# Altium schematic symbol library RF Module.SchLib: 92 symbols (part 1 of 2)
Pins are listed as number, name and electrical type; pins without a type are passive.

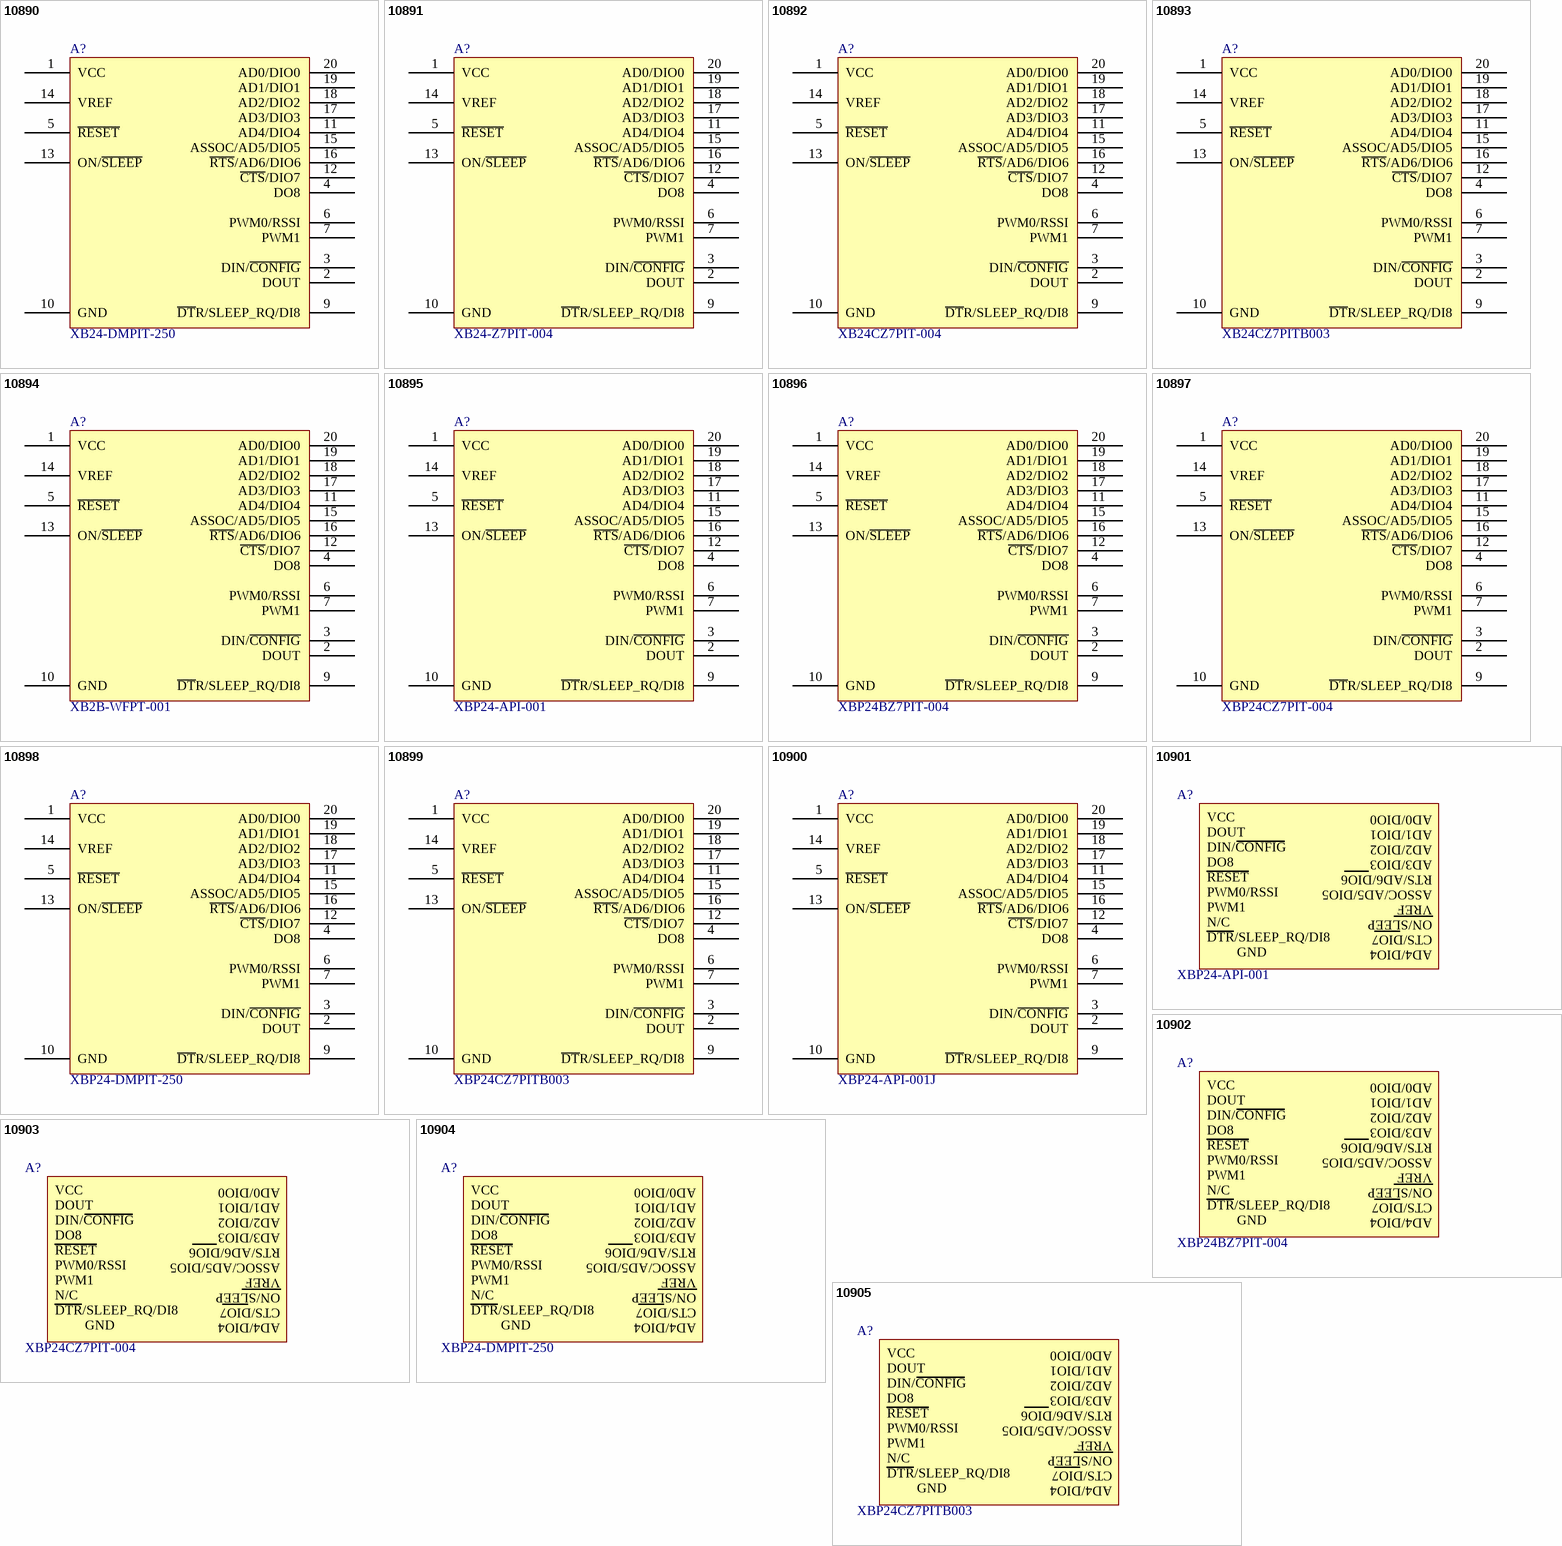
[diagram p0: symbols 10890 to 10905]

## 10890
designator A?, comment XB24-DMPIT-250
XBEE DIGIMESH 2.4GHZ 1MW PCB ANT; Manufacturer: Digi International; Protocol: Zigbee; DataRate: 250kbps; Power - Output: 0dBm; Sensitivity: -92dBm; Serial Interfaces: SPI, UART; Antenna Type: Integrated, Trace; Voltage - Supply: 2.8 V ~ 3.4 V; Current - Receiving: 50mA; Current - Transmitting: 45mA; PartId: 10890; Part Number: XB24-DMPIT-250; Supplier 1: Digi-Key; Supplier Part Number 1: 602-1338-ND; ComponentLink1Description: Datasheet; ComponentLink1URL: http://www.digi.com/pdf/ds_xbeedigimesh24.pdf; ComponentLink2Description: Digi-Key Listing; ComponentLink2URL: https://www.digikey.com/product-detail/en/digi-international/XB24-DMPIT-250/602-1338-ND/3482610; Price: 19; Device Package: Module; Operating Temperature: -40C ~ 85C; RF Family/Standard: 802.15.4; Frequency: 2.4GHz; Mounting Type: Through Hole
footprint DIGI XBEE PCB ANT
pins: 1 VCC, 2 DOUT, 3 DIN/~{CONFIG}, 4 DO8, 5 ~{RESET}, 6 PWM0/RSSI, 7 PWM1, 9 ~{DT}R/SLEEP_RQ/DI8, 10 GND, 11 AD4/DIO4, 12 ~{CTS}/DIO7, 13 ON/~{SLEEP}, 14 VREF, 15 ASSOC/AD5/DIO5, 16 ~{RTS}/AD6/DIO6, 17 AD3/DIO3, 18 AD2/DIO2, 19 AD1/DIO1, 20 AD0/DIO0

## 10891
designator A?, comment XB24-Z7PIT-004
XBEE PRO 2.4GHZ 2MW PCB ANT; Manufacturer: Digi International; Protocol: Zigbee; DataRate: 250kbps; Power - Output: 1dBm; Sensitivity: -96dBm; Antenna Type: Integrated, Trace; Voltage - Supply: 2.1 V ~ 3.6 V; Current - Receiving: 38mA; Current - Transmitting: 35mA; PartId: 10891; Part Number: XB24-Z7PIT-004; Supplier 1: Digi-Key; Supplier Part Number 1: 602-1275-ND; ComponentLink1Description: Datasheet; ComponentLink1URL: http://media.digikey.com/pdf/Data%20Sheets/Digi%20International%20PDFs/xbeezbmodule_ds.pdf; ComponentLink2Description: Digi-Key Listing; ComponentLink2URL: https://www.digikey.com/product-detail/en/digi-international/XB24-Z7PIT-004/602-1275-ND/3482624; Price: 17; Device Package: Module; Operating Temperature: -40C ~ 85C; RF Family/Standard: 802.15.4; Frequency: 2.4GHz; Mounting Type: Through Hole
footprint DIGI XBEE PCB ANT
pins: 1 VCC, 2 DOUT, 3 DIN/~{CONFIG}, 4 DO8, 5 ~{RESET}, 6 PWM0/RSSI, 7 PWM1, 9 ~{DT}R/SLEEP_RQ/DI8, 10 GND, 11 AD4/DIO4, 12 ~{CTS}/DIO7, 13 ON/~{SLEEP}, 14 VREF, 15 ASSOC/AD5/DIO5, 16 ~{RTS}/AD6/DIO6, 17 AD3/DIO3, 18 AD2/DIO2, 19 AD1/DIO1, 20 AD0/DIO0

## 10892
designator A?, comment XB24CZ7PIT-004
MODULE XBEE W/PCB ANT; Manufacturer: Digi International; Protocol: Zigbee; Frequency: 2.4GHz; DataRate: 250kbps; Power - Output: 8dBm; Sensitivity: -102dBm; Serial Interfaces: SPI, UART; Antenna Type: Integrated, Trace; Voltage - Supply: 2.1 V ~ 3.6 V; Current - Receiving: 31mA; Current - Transmitting: 45mA; PartId: 10892; Part Number: XB24CZ7PIT-004; Supplier 1: Digi-Key; Supplier Part Number 1: 602-1557-ND; ComponentLink1Description: Datasheet; ComponentLink1URL: http://www.digi.com/pdf/ds_xbee_zigbee.pdf; ComponentLink2Description: Digi-Key Listing; ComponentLink2URL: https://www.digikey.com/product-detail/en/digi-international/XB24CZ7PIT-004/602-1557-ND/5322371; Price: 17.5; Device Package: Module; Operating Temperature: -40C ~ 85C; RF Family/Standard: 802.15.4; Mounting Type: Through Hole
footprint DIGI XBEE PCB ANT
pins: 1 VCC, 2 DOUT, 3 DIN/~{CONFIG}, 4 DO8, 5 ~{RESET}, 6 PWM0/RSSI, 7 PWM1, 9 ~{DT}R/SLEEP_RQ/DI8, 10 GND, 11 AD4/DIO4, 12 ~{CTS}/DIO7, 13 ON/~{SLEEP}, 14 VREF, 15 ASSOC/AD5/DIO5, 16 ~{RTS}/AD6/DIO6, 17 AD3/DIO3, 18 AD2/DIO2, 19 AD1/DIO1, 20 AD0/DIO0

## 10893
designator A?, comment XB24CZ7PITB003
MODULE XBEE W/PCB ANT; Manufacturer: Digi International; Protocol: Zigbee; Frequency: 2.4GHz; DataRate: 250kbps; Power - Output: 8dBm; Sensitivity: -102dBm; Serial Interfaces: SPI, UART; Antenna Type: Integrated, Trace; Memory Size: 32kB Flash, 2kB RAM; Voltage - Supply: 2.1 V ~ 3.6 V; Current - Receiving: 45mA; Current - Transmitting: 59mA; PartId: 10893; Part Number: XB24CZ7PITB003; Supplier 1: Digi-Key; Supplier Part Number 1: 602-1855-ND; ComponentLink1Description: Datasheet; ComponentLink1URL: http://www.digi.com/pdf/ds_xbee_zigbee.pdf; ComponentLink2Description: Digi-Key Listing; ComponentLink2URL: https://www.digikey.com/product-detail/en/digi-international/XB24CZ7PITB003/602-1855-ND/5322877; Price: 20.25; Device Package: Module; Operating Temperature: -40C ~ 85C; RF Family/Standard: 802.15.4; Mounting Type: Through Hole
footprint DIGI XBEE PCB ANT
pins: 1 VCC, 2 DOUT, 3 DIN/~{CONFIG}, 4 DO8, 5 ~{RESET}, 6 PWM0/RSSI, 7 PWM1, 9 ~{DT}R/SLEEP_RQ/DI8, 10 GND, 11 AD4/DIO4, 12 ~{CTS}/DIO7, 13 ON/~{SLEEP}, 14 VREF, 15 ASSOC/AD5/DIO5, 16 ~{RTS}/AD6/DIO6, 17 AD3/DIO3, 18 AD2/DIO2, 19 AD1/DIO1, 20 AD0/DIO0

## 10894
designator A?, comment XB2B-WFPT-001
XBEE WI-FI PCB ANTENNA THRU-HOLE; Manufacturer: Digi International; RF Family/Standard: WiFi; Protocol: 802.11b/g/n; Frequency: 2.4GHz; DataRate: 72Mbps; Power - Output: 16dBm; Sensitivity: -93dBm; Serial Interfaces: SPI, UART; Antenna Type: Integrated, Trace; Voltage - Supply: 3.14 V ~ 3.46 V; Current - Receiving: 100mA; Current - Transmitting: 309mA; PartId: 10894; Part Number: XB2B-WFPT-001; Supplier 1: Digi-Key; Supplier Part Number 1: 602-1370-ND; ComponentLink1Description: Datasheet; ComponentLink1URL: http://www.digi.com/pdf/ds_xbeewifis6b.pdf; ComponentLink2Description: Digi-Key Listing; ComponentLink2URL: https://www.digikey.com/product-detail/en/digi-international/XB2B-WFPT-001/602-1370-ND/3973699; Price: 36.19; Device Package: Module; Operating Temperature: -30C ~ 85C; Mounting Type: Through Hole
footprint DIGI XBEE PCB ANT
pins: 1 VCC, 2 DOUT, 3 DIN/~{CONFIG}, 4 DO8, 5 ~{RESET}, 6 PWM0/RSSI, 7 PWM1, 9 ~{DT}R/SLEEP_RQ/DI8, 10 GND, 11 AD4/DIO4, 12 ~{CTS}/DIO7, 13 ON/~{SLEEP}, 14 VREF, 15 ASSOC/AD5/DIO5, 16 ~{RTS}/AD6/DIO6, 17 AD3/DIO3, 18 AD2/DIO2, 19 AD1/DIO1, 20 AD0/DIO0

## 10895
designator A?, comment XBP24-API-001
XBEE PRO 802.15.4 63MW PCB; Manufacturer: Digi International; Protocol: Zigbee; Frequency: 2.4GHz; DataRate: 250kbps; Power - Output: 18dBm; Sensitivity: -100dBm; Serial Interfaces: UART; Antenna Type: Integrated, Trace; Voltage - Supply: 2.8 V ~ 3.4 V; Current - Receiving: 55mA; Current - Transmitting: 250mA; PartId: 10895; Part Number: XBP24-API-001; Supplier 1: Digi-Key; Supplier Part Number 1: 602-1280-ND; ComponentLink1Description: Datasheet; ComponentLink1URL: http://www.digi.com/pdf/ds_xbeemultipointmodules.pdf; ComponentLink2Description: Digi-Key Listing; ComponentLink2URL: https://www.digikey.com/product-detail/en/digi-international/XBP24-API-001/602-1280-ND/3482668; Price: 32; Device Package: Module; Operating Temperature: -40C ~ 85C; RF Family/Standard: 802.15.4; Mounting Type: Through Hole
footprint DIGI XBEE PRO PCB ANT
pins: 1 VCC, 2 DOUT, 3 DIN/~{CONFIG}, 4 DO8, 5 ~{RESET}, 6 PWM0/RSSI, 7 PWM1, 9 ~{DT}R/SLEEP_RQ/DI8, 10 GND, 11 AD4/DIO4, 12 ~{CTS}/DIO7, 13 ON/~{SLEEP}, 14 VREF, 15 ASSOC/AD5/DIO5, 16 ~{RTS}/AD6/DIO6, 17 AD3/DIO3, 18 AD2/DIO2, 19 AD1/DIO1, 20 AD0/DIO0

## 10896
designator A?, comment XBP24BZ7PIT-004
MODULE ZIGBEE-PRO W/PCB ANT; Manufacturer: Digi International; Protocol: Zigbee; Frequency: 2.4GHz; DataRate: 250kbps; Power - Output: 18dBm; Sensitivity: -102dBm; Serial Interfaces: IC, PWM, SPI, UART; Antenna Type: Integrated, Trace; Voltage - Supply: 2.7 V ~ 3.6 V; Current - Receiving: 47mA; Current - Transmitting: 205mA; PartId: 10896; Part Number: XBP24BZ7PIT-004; Supplier 1: Digi-Key; Supplier Part Number 1: 602-1179-ND; ComponentLink1Description: Datasheet; ComponentLink1URL: http://media.digikey.com/pdf/Data%20Sheets/Digi%20International%20PDFs/xbeezbmodule_ds.pdf; ComponentLink2Description: Digi-Key Listing; ComponentLink2URL: https://www.digikey.com/product-detail/en/digi-international/XBP24BZ7PIT-004/602-1179-ND/2344899; Price: 28; Device Package: Module; Operating Temperature: -40C ~ 85C; RF Family/Standard: 802.15.4; Mounting Type: Through Hole
footprint DIGI XBEE PRO PCB ANT
pins: 1 VCC, 2 DOUT, 3 DIN/~{CONFIG}, 4 DO8, 5 ~{RESET}, 6 PWM0/RSSI, 7 PWM1, 9 ~{DT}R/SLEEP_RQ/DI8, 10 GND, 11 AD4/DIO4, 12 ~{CTS}/DIO7, 13 ON/~{SLEEP}, 14 VREF, 15 ASSOC/AD5/DIO5, 16 ~{RTS}/AD6/DIO6, 17 AD3/DIO3, 18 AD2/DIO2, 19 AD1/DIO1, 20 AD0/DIO0

## 10897
designator A?, comment XBP24CZ7PIT-004
MODULE XBEE W/PCB ANT; Manufacturer: Digi International; Protocol: Zigbee; Frequency: 2.4GHz; DataRate: 250kbps; Power - Output: 18dBm; Sensitivity: -101dBm; Serial Interfaces: SPI, UART; Antenna Type: Integrated, Trace; Voltage - Supply: 2.7 V ~ 3.6 V; Current - Receiving: 31mA; Current - Transmitting: 120mA; PartId: 10897; Part Number: XBP24CZ7PIT-004; Supplier 1: Digi-Key; Supplier Part Number 1: 602-1561-ND; ComponentLink1Description: Datasheet; ComponentLink1URL: http://www.digi.com/pdf/ds_xbee_zigbee.pdf; ComponentLink2Description: Digi-Key Listing; ComponentLink2URL: https://www.digikey.com/product-detail/en/digi-international/XBP24CZ7PIT-004/602-1561-ND/5322375; Price: 28.5; Device Package: Module; Operating Temperature: -40C ~ 85C; RF Family/Standard: 802.15.4; Mounting Type: Through Hole
footprint DIGI XBEE PRO PCB ANT
pins: 1 VCC, 2 DOUT, 3 DIN/~{CONFIG}, 4 DO8, 5 ~{RESET}, 6 PWM0/RSSI, 7 PWM1, 9 ~{DT}R/SLEEP_RQ/DI8, 10 GND, 11 AD4/DIO4, 12 ~{CTS}/DIO7, 13 ON/~{SLEEP}, 14 VREF, 15 ASSOC/AD5/DIO5, 16 ~{RTS}/AD6/DIO6, 17 AD3/DIO3, 18 AD2/DIO2, 19 AD1/DIO1, 20 AD0/DIO0

## 10898
designator A?, comment XBP24-DMPIT-250
XBEE PRO DIGIMESH 2.4GHZ 63MW; Manufacturer: Digi International; RF Family/Standard: General ISM &gt; 1GHZ; Modulation: DSSS; DataRate: 250kbps; Power - Output: 18dBm; Sensitivity: -100dBm; Serial Interfaces: UART; Antenna Type: Integrated, Trace; Voltage - Supply: 2.8 V ~ 3.4 V; Current - Receiving: 55mA; Current - Transmitting: 250mA; PartId: 10898; Part Number: XBP24-DMPIT-250; Supplier 1: Digi-Key; Supplier Part Number 1: 602-1339-ND; ComponentLink1Description: Datasheet; ComponentLink1URL: http://www.digi.com/pdf/ds_xbeedigimesh24.pdf; ComponentLink2Description: Digi-Key Listing; ComponentLink2URL: https://www.digikey.com/product-detail/en/digi-international/XBP24-DMPIT-250/602-1339-ND/3482752; Price: 32; Device Package: Module; Operating Temperature: -40C ~ 85C; Frequency: 2.4GHz; Mounting Type: Through Hole
footprint DIGI XBEE PRO PCB ANT
pins: 1 VCC, 2 DOUT, 3 DIN/~{CONFIG}, 4 DO8, 5 ~{RESET}, 6 PWM0/RSSI, 7 PWM1, 9 ~{DT}R/SLEEP_RQ/DI8, 10 GND, 11 AD4/DIO4, 12 ~{CTS}/DIO7, 13 ON/~{SLEEP}, 14 VREF, 15 ASSOC/AD5/DIO5, 16 ~{RTS}/AD6/DIO6, 17 AD3/DIO3, 18 AD2/DIO2, 19 AD1/DIO1, 20 AD0/DIO0

## 10899
designator A?, comment XBP24CZ7PITB003
MODULE XBEE W/PCB ANT; Manufacturer: Digi International; Protocol: Zigbee; Frequency: 2.4GHz; DataRate: 250kbps; Power - Output: 18dBm; Sensitivity: -101dBm; Serial Interfaces: SPI, UART; Antenna Type: Integrated, Trace; Memory Size: 32kB Flash, 2kB RAM; Voltage - Supply: 2.7 V ~ 3.6 V; Current - Receiving: 45mA; Current - Transmitting: 120mA; PartId: 10899; Part Number: XBP24CZ7PITB003; Supplier 1: Digi-Key; Supplier Part Number 1: 602-1859-ND; ComponentLink1Description: Datasheet; ComponentLink1URL: http://www.digi.com/pdf/ds_xbee_zigbee.pdf; ComponentLink2Description: Digi-Key Listing; ComponentLink2URL: https://www.digikey.com/product-detail/en/digi-international/XBP24CZ7PITB003/602-1859-ND/5322881; Price: 31.25; Device Package: Module; Operating Temperature: -40C ~ 85C; RF Family/Standard: 802.15.4; Mounting Type: Through Hole
footprint DIGI XBEE PRO PCB ANT
pins: 1 VCC, 2 DOUT, 3 DIN/~{CONFIG}, 4 DO8, 5 ~{RESET}, 6 PWM0/RSSI, 7 PWM1, 9 ~{DT}R/SLEEP_RQ/DI8, 10 GND, 11 AD4/DIO4, 12 ~{CTS}/DIO7, 13 ON/~{SLEEP}, 14 VREF, 15 ASSOC/AD5/DIO5, 16 ~{RTS}/AD6/DIO6, 17 AD3/DIO3, 18 AD2/DIO2, 19 AD1/DIO1, 20 AD0/DIO0

## 10900
designator A?, comment XBP24-API-001J
XBEE PRO 802.15.4 10MW PCB; Manufacturer: Digi International; Protocol: Zigbee; Frequency: 2.4GHz; DataRate: 250kbps; Power - Output: 10dBm; Sensitivity: -100dBm; Serial Interfaces: UART; Antenna Type: Integrated, Trace; Voltage - Supply: 2.8 V ~ 3.4 V; Current - Receiving: 55mA; Current - Transmitting: 250mA; PartId: 10900; Part Number: XBP24-API-001J; Supplier 1: Digi-Key; Supplier Part Number 1: 602-1477-ND; ComponentLink1Description: Datasheet; ComponentLink1URL: http://www.digi.com/pdf/ds_xbeemultipointmodules.pdf; ComponentLink2Description: Digi-Key Listing; ComponentLink2URL: https://www.digikey.com/product-detail/en/digi-international/XBP24-API-001J/602-1477-ND/3482669; Price: 32; Device Package: Module; Operating Temperature: -40C ~ 85C; RF Family/Standard: 802.15.4; Mounting Type: Through Hole
footprint DIGI XBEE PRO PCB ANT
pins: 1 VCC, 2 DOUT, 3 DIN/~{CONFIG}, 4 DO8, 5 ~{RESET}, 6 PWM0/RSSI, 7 PWM1, 9 ~{DT}R/SLEEP_RQ/DI8, 10 GND, 11 AD4/DIO4, 12 ~{CTS}/DIO7, 13 ON/~{SLEEP}, 14 VREF, 15 ASSOC/AD5/DIO5, 16 ~{RTS}/AD6/DIO6, 17 AD3/DIO3, 18 AD2/DIO2, 19 AD1/DIO1, 20 AD0/DIO0

## 10901
designator A?, comment XBP24-API-001
XBEE PRO 802.15.4 63MW PCB; Manufacturer: Digi International; Protocol: Zigbee; Frequency: 2.4GHz; DataRate: 250kbps; Power - Output: 18dBm; Sensitivity: -100dBm; Serial Interfaces: UART; Antenna Type: Integrated, Trace; Voltage - Supply: 2.8 V ~ 3.4 V; Current - Receiving: 55mA; Current - Transmitting: 250mA; PartId: 10901; Part Number: XBP24-API-001; Supplier 1: Digi-Key; Supplier Part Number 1: 602-1280-ND; ComponentLink1Description: Datasheet; ComponentLink1URL: http://www.digi.com/pdf/ds_xbeemultipointmodules.pdf; ComponentLink2Description: Digi-Key Listing; ComponentLink2URL: https://www.digikey.com/product-detail/en/digi-international/XBP24-API-001/602-1280-ND/3482668; Price: 32; Device Package: Module; Operating Temperature: -40C ~ 85C; RF Family/Standard: 802.15.4; Mounting Type: Through Hole
footprint DIGI XBEE PRO PCB ANT FOR HDR
text: AD0/DIO0; VCC; AD1/DIO1; DOUT; AD2/DIO2; DIN/CONFIG; AD3/DIO3; DO8; RTS/AD6/DIO6; RESET; ASSOC/AD5/DIO5; PWM0/RSSI; VREF; PWM1; ON/SLEEP; N/C; CTS/DIO7; DTR/SLEEP_RQ/DI8; AD4/DIO4; GND

## 10902
designator A?, comment XBP24BZ7PIT-004
MODULE ZIGBEE-PRO W/PCB ANT; Manufacturer: Digi International; Protocol: Zigbee; Frequency: 2.4GHz; DataRate: 250kbps; Power - Output: 18dBm; Sensitivity: -102dBm; Serial Interfaces: IC, PWM, SPI, UART; Antenna Type: Integrated, Trace; Voltage - Supply: 2.7 V ~ 3.6 V; Current - Receiving: 47mA; Current - Transmitting: 205mA; PartId: 10902; Part Number: XBP24BZ7PIT-004; Supplier 1: Digi-Key; Supplier Part Number 1: 602-1179-ND; ComponentLink1Description: Datasheet; ComponentLink1URL: http://media.digikey.com/pdf/Data%20Sheets/Digi%20International%20PDFs/xbeezbmodule_ds.pdf; ComponentLink2Description: Digi-Key Listing; ComponentLink2URL: https://www.digikey.com/product-detail/en/digi-international/XBP24BZ7PIT-004/602-1179-ND/2344899; Price: 28; Device Package: Module; Operating Temperature: -40C ~ 85C; RF Family/Standard: 802.15.4; Mounting Type: Through Hole
footprint DIGI XBEE PRO PCB ANT FOR HDR
text: AD0/DIO0; VCC; AD1/DIO1; DOUT; AD2/DIO2; DIN/CONFIG; AD3/DIO3; DO8; RTS/AD6/DIO6; RESET; ASSOC/AD5/DIO5; PWM0/RSSI; VREF; PWM1; ON/SLEEP; N/C; CTS/DIO7; DTR/SLEEP_RQ/DI8; AD4/DIO4; GND

## 10903
designator A?, comment XBP24CZ7PIT-004
MODULE XBEE W/PCB ANT; Manufacturer: Digi International; Protocol: Zigbee; Frequency: 2.4GHz; DataRate: 250kbps; Power - Output: 18dBm; Sensitivity: -101dBm; Serial Interfaces: SPI, UART; Antenna Type: Integrated, Trace; Voltage - Supply: 2.7 V ~ 3.6 V; Current - Receiving: 31mA; Current - Transmitting: 120mA; PartId: 10903; Part Number: XBP24CZ7PIT-004; Supplier 1: Digi-Key; Supplier Part Number 1: 602-1561-ND; ComponentLink1Description: Datasheet; ComponentLink1URL: http://www.digi.com/pdf/ds_xbee_zigbee.pdf; ComponentLink2Description: Digi-Key Listing; ComponentLink2URL: https://www.digikey.com/product-detail/en/digi-international/XBP24CZ7PIT-004/602-1561-ND/5322375; Price: 28.5; Device Package: Module; Operating Temperature: -40C ~ 85C; RF Family/Standard: 802.15.4; Mounting Type: Through Hole
footprint DIGI XBEE PRO PCB ANT FOR HDR
text: AD0/DIO0; VCC; AD1/DIO1; DOUT; AD2/DIO2; DIN/CONFIG; AD3/DIO3; DO8; RTS/AD6/DIO6; RESET; ASSOC/AD5/DIO5; PWM0/RSSI; VREF; PWM1; ON/SLEEP; N/C; CTS/DIO7; DTR/SLEEP_RQ/DI8; AD4/DIO4; GND

## 10904
designator A?, comment XBP24-DMPIT-250
XBEE PRO DIGIMESH 2.4GHZ 63MW; Manufacturer: Digi International; RF Family/Standard: General ISM &gt; 1GHZ; Modulation: DSSS; DataRate: 250kbps; Power - Output: 18dBm; Sensitivity: -100dBm; Serial Interfaces: UART; Antenna Type: Integrated, Trace; Voltage - Supply: 2.8 V ~ 3.4 V; Current - Receiving: 55mA; Current - Transmitting: 250mA; PartId: 10904; Part Number: XBP24-DMPIT-250; Supplier 1: Digi-Key; Supplier Part Number 1: 602-1339-ND; ComponentLink1Description: Datasheet; ComponentLink1URL: http://www.digi.com/pdf/ds_xbeedigimesh24.pdf; ComponentLink2Description: Digi-Key Listing; ComponentLink2URL: https://www.digikey.com/product-detail/en/digi-international/XBP24-DMPIT-250/602-1339-ND/3482752; Price: 32; Device Package: Module; Operating Temperature: -40C ~ 85C; Frequency: 2.4GHz; Mounting Type: Through Hole
footprint DIGI XBEE PRO PCB ANT FOR HDR
text: AD0/DIO0; VCC; AD1/DIO1; DOUT; AD2/DIO2; DIN/CONFIG; AD3/DIO3; DO8; RTS/AD6/DIO6; RESET; ASSOC/AD5/DIO5; PWM0/RSSI; VREF; PWM1; ON/SLEEP; N/C; CTS/DIO7; DTR/SLEEP_RQ/DI8; AD4/DIO4; GND

## 10905
designator A?, comment XBP24CZ7PITB003
MODULE XBEE W/PCB ANT; Manufacturer: Digi International; Protocol: Zigbee; Frequency: 2.4GHz; DataRate: 250kbps; Power - Output: 18dBm; Sensitivity: -101dBm; Serial Interfaces: SPI, UART; Antenna Type: Integrated, Trace; Memory Size: 32kB Flash, 2kB RAM; Voltage - Supply: 2.7 V ~ 3.6 V; Current - Receiving: 45mA; Current - Transmitting: 120mA; PartId: 10905; Part Number: XBP24CZ7PITB003; Supplier 1: Digi-Key; Supplier Part Number 1: 602-1859-ND; ComponentLink1Description: Datasheet; ComponentLink1URL: http://www.digi.com/pdf/ds_xbee_zigbee.pdf; ComponentLink2Description: Digi-Key Listing; ComponentLink2URL: https://www.digikey.com/product-detail/en/digi-international/XBP24CZ7PITB003/602-1859-ND/5322881; Price: 31.25; Device Package: Module; Operating Temperature: -40C ~ 85C; RF Family/Standard: 802.15.4; Mounting Type: Through Hole
footprint DIGI XBEE PRO PCB ANT FOR HDR
text: AD0/DIO0; VCC; AD1/DIO1; DOUT; AD2/DIO2; DIN/CONFIG; AD3/DIO3; DO8; RTS/AD6/DIO6; RESET; ASSOC/AD5/DIO5; PWM0/RSSI; VREF; PWM1; ON/SLEEP; N/C; CTS/DIO7; DTR/SLEEP_RQ/DI8; AD4/DIO4; GND

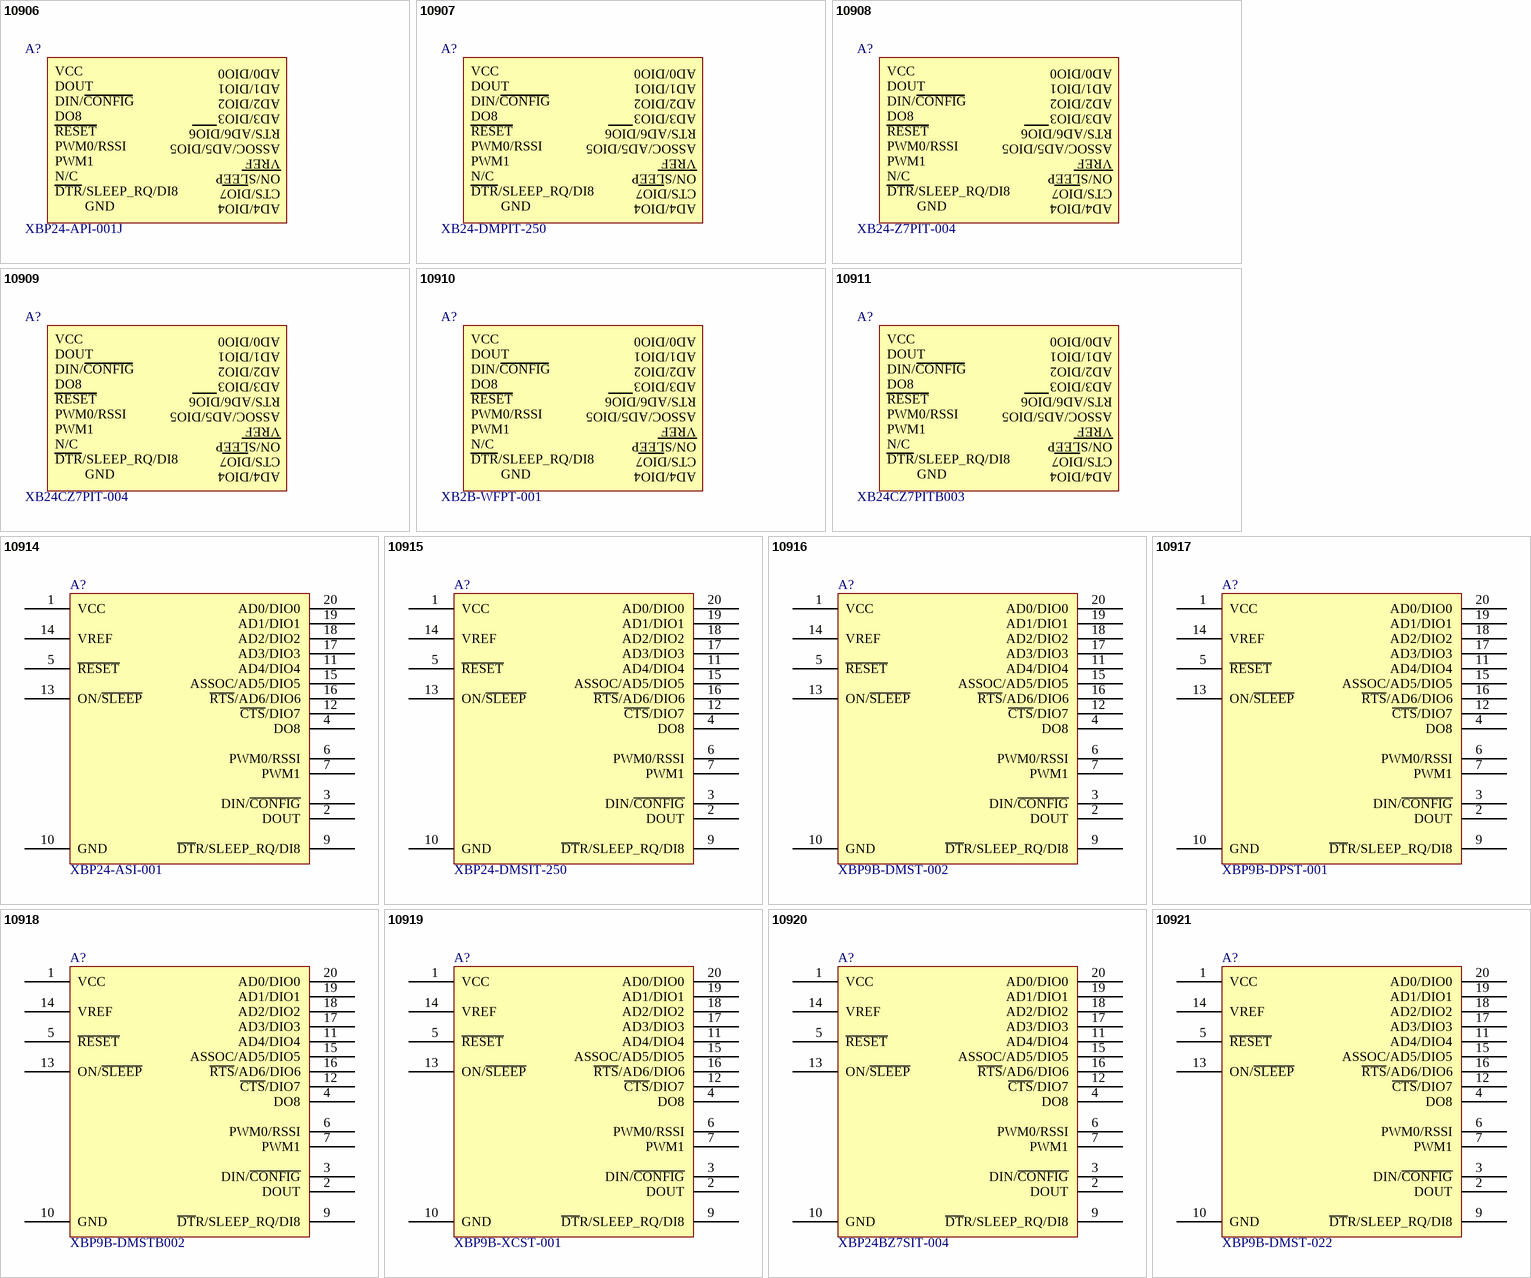
[diagram p1: symbols 10906 to 10921]

## 10906
designator A?, comment XBP24-API-001J
XBEE PRO 802.15.4 10MW PCB; Manufacturer: Digi International; Protocol: Zigbee; Frequency: 2.4GHz; DataRate: 250kbps; Power - Output: 10dBm; Sensitivity: -100dBm; Serial Interfaces: UART; Antenna Type: Integrated, Trace; Voltage - Supply: 2.8 V ~ 3.4 V; Current - Receiving: 55mA; Current - Transmitting: 250mA; PartId: 10906; Part Number: XBP24-API-001J; Supplier 1: Digi-Key; Supplier Part Number 1: 602-1477-ND; ComponentLink1Description: Datasheet; ComponentLink1URL: http://www.digi.com/pdf/ds_xbeemultipointmodules.pdf; ComponentLink2Description: Digi-Key Listing; ComponentLink2URL: https://www.digikey.com/product-detail/en/digi-international/XBP24-API-001J/602-1477-ND/3482669; Price: 32; Device Package: Module; Operating Temperature: -40C ~ 85C; RF Family/Standard: 802.15.4; Mounting Type: Through Hole
footprint DIGI XBEE PRO PCB ANT FOR HDR
text: AD0/DIO0; VCC; AD1/DIO1; DOUT; AD2/DIO2; DIN/CONFIG; AD3/DIO3; DO8; RTS/AD6/DIO6; RESET; ASSOC/AD5/DIO5; PWM0/RSSI; VREF; PWM1; ON/SLEEP; N/C; CTS/DIO7; DTR/SLEEP_RQ/DI8; AD4/DIO4; GND

## 10907
designator A?, comment XB24-DMPIT-250
XBEE DIGIMESH 2.4GHZ 1MW PCB ANT; Manufacturer: Digi International; Protocol: Zigbee; DataRate: 250kbps; Power - Output: 0dBm; Sensitivity: -92dBm; Serial Interfaces: SPI, UART; Antenna Type: Integrated, Trace; Voltage - Supply: 2.8 V ~ 3.4 V; Current - Receiving: 50mA; Current - Transmitting: 45mA; PartId: 10907; Part Number: XB24-DMPIT-250; Supplier 1: Digi-Key; Supplier Part Number 1: 602-1338-ND; ComponentLink1Description: Datasheet; ComponentLink1URL: http://www.digi.com/pdf/ds_xbeedigimesh24.pdf; ComponentLink2Description: Digi-Key Listing; ComponentLink2URL: https://www.digikey.com/product-detail/en/digi-international/XB24-DMPIT-250/602-1338-ND/3482610; Price: 19; Device Package: Module; Operating Temperature: -40C ~ 85C; RF Family/Standard: 802.15.4; Frequency: 2.4GHz; Mounting Type: Through Hole
footprint DIGI XBEE PCB ANT FOR HDR
text: AD0/DIO0; VCC; AD1/DIO1; DOUT; AD2/DIO2; DIN/CONFIG; AD3/DIO3; DO8; RTS/AD6/DIO6; RESET; ASSOC/AD5/DIO5; PWM0/RSSI; VREF; PWM1; ON/SLEEP; N/C; CTS/DIO7; DTR/SLEEP_RQ/DI8; AD4/DIO4; GND

## 10908
designator A?, comment XB24-Z7PIT-004
XBEE PRO 2.4GHZ 2MW PCB ANT; Manufacturer: Digi International; Protocol: Zigbee; DataRate: 250kbps; Power - Output: 1dBm; Sensitivity: -96dBm; Antenna Type: Integrated, Trace; Voltage - Supply: 2.1 V ~ 3.6 V; Current - Receiving: 38mA; Current - Transmitting: 35mA; PartId: 10908; Part Number: XB24-Z7PIT-004; Supplier 1: Digi-Key; Supplier Part Number 1: 602-1275-ND; ComponentLink1Description: Datasheet; ComponentLink1URL: http://media.digikey.com/pdf/Data%20Sheets/Digi%20International%20PDFs/xbeezbmodule_ds.pdf; ComponentLink2Description: Digi-Key Listing; ComponentLink2URL: https://www.digikey.com/product-detail/en/digi-international/XB24-Z7PIT-004/602-1275-ND/3482624; Price: 17; Device Package: Module; Operating Temperature: -40C ~ 85C; RF Family/Standard: 802.15.4; Frequency: 2.4GHz; Mounting Type: Through Hole
footprint DIGI XBEE PCB ANT FOR HDR
text: AD0/DIO0; VCC; AD1/DIO1; DOUT; AD2/DIO2; DIN/CONFIG; AD3/DIO3; DO8; RTS/AD6/DIO6; RESET; ASSOC/AD5/DIO5; PWM0/RSSI; VREF; PWM1; ON/SLEEP; N/C; CTS/DIO7; DTR/SLEEP_RQ/DI8; AD4/DIO4; GND

## 10909
designator A?, comment XB24CZ7PIT-004
MODULE XBEE W/PCB ANT; Manufacturer: Digi International; Protocol: Zigbee; Frequency: 2.4GHz; DataRate: 250kbps; Power - Output: 8dBm; Sensitivity: -102dBm; Serial Interfaces: SPI, UART; Antenna Type: Integrated, Trace; Voltage - Supply: 2.1 V ~ 3.6 V; Current - Receiving: 31mA; Current - Transmitting: 45mA; PartId: 10909; Part Number: XB24CZ7PIT-004; Supplier 1: Digi-Key; Supplier Part Number 1: 602-1557-ND; ComponentLink1Description: Datasheet; ComponentLink1URL: http://www.digi.com/pdf/ds_xbee_zigbee.pdf; ComponentLink2Description: Digi-Key Listing; ComponentLink2URL: https://www.digikey.com/product-detail/en/digi-international/XB24CZ7PIT-004/602-1557-ND/5322371; Price: 17.5; Device Package: Module; Operating Temperature: -40C ~ 85C; RF Family/Standard: 802.15.4; Mounting Type: Through Hole
footprint DIGI XBEE PCB ANT FOR HDR
text: AD0/DIO0; VCC; AD1/DIO1; DOUT; AD2/DIO2; DIN/CONFIG; AD3/DIO3; DO8; RTS/AD6/DIO6; RESET; ASSOC/AD5/DIO5; PWM0/RSSI; VREF; PWM1; ON/SLEEP; N/C; CTS/DIO7; DTR/SLEEP_RQ/DI8; AD4/DIO4; GND

## 10910
designator A?, comment XB2B-WFPT-001
XBEE WI-FI PCB ANTENNA THRU-HOLE; Manufacturer: Digi International; RF Family/Standard: WiFi; Protocol: 802.11b/g/n; Frequency: 2.4GHz; DataRate: 72Mbps; Power - Output: 16dBm; Sensitivity: -93dBm; Serial Interfaces: SPI, UART; Antenna Type: Integrated, Trace; Voltage - Supply: 3.14 V ~ 3.46 V; Current - Receiving: 100mA; Current - Transmitting: 309mA; PartId: 10910; Part Number: XB2B-WFPT-001; Supplier 1: Digi-Key; Supplier Part Number 1: 602-1370-ND; ComponentLink1Description: Datasheet; ComponentLink1URL: http://www.digi.com/pdf/ds_xbeewifis6b.pdf; ComponentLink2Description: Digi-Key Listing; ComponentLink2URL: https://www.digikey.com/product-detail/en/digi-international/XB2B-WFPT-001/602-1370-ND/3973699; Price: 36.19; Device Package: Module; Operating Temperature: -30C ~ 85C; Mounting Type: Through Hole
footprint DIGI XBEE PCB ANT FOR HDR
text: AD0/DIO0; VCC; AD1/DIO1; DOUT; AD2/DIO2; DIN/CONFIG; AD3/DIO3; DO8; RTS/AD6/DIO6; RESET; ASSOC/AD5/DIO5; PWM0/RSSI; VREF; PWM1; ON/SLEEP; N/C; CTS/DIO7; DTR/SLEEP_RQ/DI8; AD4/DIO4; GND

## 10911
designator A?, comment XB24CZ7PITB003
MODULE XBEE W/PCB ANT; Manufacturer: Digi International; Protocol: Zigbee; Frequency: 2.4GHz; DataRate: 250kbps; Power - Output: 8dBm; Sensitivity: -102dBm; Serial Interfaces: SPI, UART; Antenna Type: Integrated, Trace; Memory Size: 32kB Flash, 2kB RAM; Voltage - Supply: 2.1 V ~ 3.6 V; Current - Receiving: 45mA; Current - Transmitting: 59mA; PartId: 10911; Part Number: XB24CZ7PITB003; Supplier 1: Digi-Key; Supplier Part Number 1: 602-1855-ND; ComponentLink1Description: Datasheet; ComponentLink1URL: http://www.digi.com/pdf/ds_xbee_zigbee.pdf; ComponentLink2Description: Digi-Key Listing; ComponentLink2URL: https://www.digikey.com/product-detail/en/digi-international/XB24CZ7PITB003/602-1855-ND/5322877; Price: 20.25; Device Package: Module; Operating Temperature: -40C ~ 85C; RF Family/Standard: 802.15.4; Mounting Type: Through Hole
footprint DIGI XBEE PCB ANT FOR HDR
text: AD0/DIO0; VCC; AD1/DIO1; DOUT; AD2/DIO2; DIN/CONFIG; AD3/DIO3; DO8; RTS/AD6/DIO6; RESET; ASSOC/AD5/DIO5; PWM0/RSSI; VREF; PWM1; ON/SLEEP; N/C; CTS/DIO7; DTR/SLEEP_RQ/DI8; AD4/DIO4; GND

## 10914
designator A?, comment XBP24-ASI-001
MODULE XBEE PRO W/RPSMA; Manufacturer: Digi International; Protocol: Zigbee; Frequency: 2.4GHz; DataRate: 250kbps; Power - Output: 18dBm; Sensitivity: -100dBm; Serial Interfaces: UART; Antenna Type: Not Included, RP-SMA; Voltage - Supply: 2.8 V ~ 3.4 V; Current - Receiving: 55mA; Current - Transmitting: 340mA; PartId: 10914; Part Number: XBP24-ASI-001; Supplier 1: Digi-Key; Supplier Part Number 1: XBP24-ASI-001-ND; ComponentLink1Description: Datasheet; ComponentLink1URL: http://www.digi.com/pdf/ds_xbeemultipointmodules.pdf; ComponentLink2Description: Digi-Key Listing; ComponentLink2URL: https://www.digikey.com/product-detail/en/digi-international/XBP24-ASI-001/XBP24-ASI-001-ND/2175373; Price: 47.44; Device Package: Module; Operating Temperature: -40C ~ 85C; RF Family/Standard: 802.15.4; Mounting Type: Through Hole
footprint DIGI XBEE PRO RPSMA
pins: 1 VCC, 2 DOUT, 3 DIN/~{CONFIG}, 4 DO8, 5 ~{RESET}, 6 PWM0/RSSI, 7 PWM1, 9 ~{DT}R/SLEEP_RQ/DI8, 10 GND, 11 AD4/DIO4, 12 ~{CTS}/DIO7, 13 ON/~{SLEEP}, 14 VREF, 15 ASSOC/AD5/DIO5, 16 ~{RTS}/AD6/DIO6, 17 AD3/DIO3, 18 AD2/DIO2, 19 AD1/DIO1, 20 AD0/DIO0

## 10915
designator A?, comment XBP24-DMSIT-250
XBEE PRO DIGIMESH 2.4GHZ 63MW; Manufacturer: Digi International; RF Family/Standard: General ISM &gt; 1GHZ; Modulation: DSSS; DataRate: 250kbps; Power - Output: 18dBm; Sensitivity: -100dBm; Serial Interfaces: UART; Antenna Type: Not Included, RP-SMA; Voltage - Supply: 2.8 V ~ 3.4 V; Current - Receiving: 55mA; Current - Transmitting: 340mA; PartId: 10915; Part Number: XBP24-DMSIT-250; Supplier 1: Digi-Key; Supplier Part Number 1: 602-1281-ND; ComponentLink1Description: Datasheet; ComponentLink1URL: http://www.digi.com/pdf/ds_xbeedigimesh24.pdf; ComponentLink2Description: Digi-Key Listing; ComponentLink2URL: https://www.digikey.com/product-detail/en/digi-international/XBP24-DMSIT-250/602-1281-ND/3482755; Price: 47.44; Device Package: Module; Operating Temperature: -40C ~ 85C; Frequency: 2.4GHz; Mounting Type: Through Hole
footprint DIGI XBEE PRO RPSMA
pins: 1 VCC, 2 DOUT, 3 DIN/~{CONFIG}, 4 DO8, 5 ~{RESET}, 6 PWM0/RSSI, 7 PWM1, 9 ~{DT}R/SLEEP_RQ/DI8, 10 GND, 11 AD4/DIO4, 12 ~{CTS}/DIO7, 13 ON/~{SLEEP}, 14 VREF, 15 ASSOC/AD5/DIO5, 16 ~{RTS}/AD6/DIO6, 17 AD3/DIO3, 18 AD2/DIO2, 19 AD1/DIO1, 20 AD0/DIO0

## 10916
designator A?, comment XBP9B-DMST-002
MODULE XBEE PRO S3B 900HP RPSMA; Manufacturer: Digi International; RF Family/Standard: General ISM &lt; 1GHz; Modulation: FHSS; Frequency: 900MHz; DataRate: 200kbps; Power - Output: 24dBm; Sensitivity: -101dBm; Serial Interfaces: UART; Antenna Type: Not Included, RP-SMA; Voltage - Supply: 2.1 V ~ 3.6 V; Current - Receiving: 29mA; Current - Transmitting: 215mA; PartId: 10916; Part Number: XBP9B-DMST-002; Supplier 1: Digi-Key; Supplier Part Number 1: 602-1299-ND; ComponentLink1Description: Datasheet; ComponentLink1URL: http://www.digi.com/pdf/ds_xbeepro900hp.pdf; ComponentLink2Description: Digi-Key Listing; ComponentLink2URL: https://www.digikey.com/product-detail/en/digi-international/XBP9B-DMST-002/602-1299-ND/3594157; Price: 54.41; Device Package: Module; Operating Temperature: -40C ~ 85C; Mounting Type: Through Hole
footprint DIGI XBEE PRO RPSMA
pins: 1 VCC, 2 DOUT, 3 DIN/~{CONFIG}, 4 DO8, 5 ~{RESET}, 6 PWM0/RSSI, 7 PWM1, 9 ~{DT}R/SLEEP_RQ/DI8, 10 GND, 11 AD4/DIO4, 12 ~{CTS}/DIO7, 13 ON/~{SLEEP}, 14 VREF, 15 ASSOC/AD5/DIO5, 16 ~{RTS}/AD6/DIO6, 17 AD3/DIO3, 18 AD2/DIO2, 19 AD1/DIO1, 20 AD0/DIO0

## 10917
designator A?, comment XBP9B-DPST-001
MODULE XBEE PRO S3B 900HP RPSMA; Manufacturer: Digi International; RF Family/Standard: General ISM &lt; 1GHz; Modulation: FHSS; Frequency: 902MHz ~ 928MHz; DataRate: 200kbps; Power - Output: 24dBm; Sensitivity: -101dBm; Serial Interfaces: SPI, UART; Antenna Type: Not Included, RP-SMA; Voltage - Supply: 2.1 V ~ 3.6 V; Current - Receiving: 29mA; Current - Transmitting: 215mA; PartId: 10917; Part Number: XBP9B-DPST-001; Supplier 1: Digi-Key; Supplier Part Number 1: 602-1349-ND; ComponentLink1Description: Datasheet; ComponentLink1URL: http://www.digi.com/pdf/ds_xbeepro900hp.pdf; ComponentLink2Description: Digi-Key Listing; ComponentLink2URL: https://www.digikey.com/product-detail/en/digi-international/XBP9B-DPST-001/602-1349-ND/3594160; Price: 54.41; Device Package: Module; Operating Temperature: -40C ~ 85C; Mounting Type: Through Hole
footprint DIGI XBEE PRO RPSMA
pins: 1 VCC, 2 DOUT, 3 DIN/~{CONFIG}, 4 DO8, 5 ~{RESET}, 6 PWM0/RSSI, 7 PWM1, 9 ~{DT}R/SLEEP_RQ/DI8, 10 GND, 11 AD4/DIO4, 12 ~{CTS}/DIO7, 13 ON/~{SLEEP}, 14 VREF, 15 ASSOC/AD5/DIO5, 16 ~{RTS}/AD6/DIO6, 17 AD3/DIO3, 18 AD2/DIO2, 19 AD1/DIO1, 20 AD0/DIO0

## 10918
designator A?, comment XBP9B-DMSTB002
XBEE PRO DIGIMSH S3B 900HP RPSMA; Manufacturer: Digi International; RF Family/Standard: General ISM &lt; 1GHz; Modulation: FHSS; Frequency: 900MHz; DataRate: 200kbps; Power - Output: 24dBm; Sensitivity: -101dBm; Serial Interfaces: SPI, UART; Antenna Type: Not Included, RP-SMA; Memory Size: 32kB Flash, 2kB RAM; Voltage - Supply: 2.1 V ~ 3.6 V; Current - Receiving: 44mA; Current - Transmitting: 229mA; PartId: 10918; Part Number: XBP9B-DMSTB002; Supplier 1: Digi-Key; Supplier Part Number 1: 602-1346-ND; ComponentLink1Description: Datasheet; ComponentLink1URL: http://www.digi.com/pdf/ds_xbeepro900hp.pdf; ComponentLink2Description: Digi-Key Listing; ComponentLink2URL: https://www.digikey.com/product-detail/en/digi-international/XBP9B-DMSTB002/602-1346-ND/3863548; Price: 58.25; Device Package: Module; Operating Temperature: -40C ~ 85C; Mounting Type: Through Hole
footprint DIGI XBEE PRO RPSMA
pins: 1 VCC, 2 DOUT, 3 DIN/~{CONFIG}, 4 DO8, 5 ~{RESET}, 6 PWM0/RSSI, 7 PWM1, 9 ~{DT}R/SLEEP_RQ/DI8, 10 GND, 11 AD4/DIO4, 12 ~{CTS}/DIO7, 13 ON/~{SLEEP}, 14 VREF, 15 ASSOC/AD5/DIO5, 16 ~{RTS}/AD6/DIO6, 17 AD3/DIO3, 18 AD2/DIO2, 19 AD1/DIO1, 20 AD0/DIO0

## 10919
designator A?, comment XBP9B-XCST-001
XBEE PRO XSC S3B 900MHZ 250MW; Manufacturer: Digi International; RF Family/Standard: General ISM &lt; 1GHz; Modulation: FHSS; Frequency: 902MHz ~ 928MHz; DataRate: 20kbps; Power - Output: 24dBm; Sensitivity: -109dBm; Serial Interfaces: SPI, UART; Antenna Type: Not Included, RP-SMA; Voltage - Supply: 2.4 V ~ 3.6 V; Current - Receiving: 26mA; Current - Transmitting: 215mA; PartId: 10919; Part Number: XBP9B-XCST-001; Supplier 1: Digi-Key; Supplier Part Number 1: 602-1293-ND; ComponentLink1Description: Datasheet; ComponentLink1URL: http://www.digi.com/pdf/ds_xbeeproxsc.pdf; ComponentLink2Description: Digi-Key Listing; ComponentLink2URL: https://www.digikey.com/product-detail/en/digi-international/XBP9B-XCST-001/602-1293-ND/3482817; Price: 58.6; Device Package: Module; Operating Temperature: -40C ~ 85C; Mounting Type: Through Hole
footprint DIGI XBEE PRO RPSMA
pins: 1 VCC, 2 DOUT, 3 DIN/~{CONFIG}, 4 DO8, 5 ~{RESET}, 6 PWM0/RSSI, 7 PWM1, 9 ~{DT}R/SLEEP_RQ/DI8, 10 GND, 11 AD4/DIO4, 12 ~{CTS}/DIO7, 13 ON/~{SLEEP}, 14 VREF, 15 ASSOC/AD5/DIO5, 16 ~{RTS}/AD6/DIO6, 17 AD3/DIO3, 18 AD2/DIO2, 19 AD1/DIO1, 20 AD0/DIO0

## 10920
designator A?, comment XBP24BZ7SIT-004
MODULE ZIGBEE-PRO W/RPSMA ANT; Manufacturer: Digi International; Protocol: Zigbee; Frequency: 2.4GHz; DataRate: 250kbps; Power - Output: 18dBm; Sensitivity: -102dBm; Serial Interfaces: IC, PWM, SPI, UART; Antenna Type: Not Included, RP-SMA; Voltage - Supply: 2.7 V ~ 3.6 V; Current - Receiving: 47mA; Current - Transmitting: 205mA; PartId: 10920; Part Number: XBP24BZ7SIT-004; Supplier 1: Digi-Key; Supplier Part Number 1: 602-1180-ND; ComponentLink1Description: Datasheet; ComponentLink1URL: //media.digikey.com/pdf/Data%20Sheets/Digi%20International%20PDFs/xbeezbmodule_ds.pdf; ComponentLink2Description: Digi-Key Listing; ComponentLink2URL: https://www.digikey.com/product-detail/en/digi-international/XBP24BZ7SIT-004/602-1180-ND/2344900; Price: 40.46; Device Package: Module; Operating Temperature: -40C ~ 85C; RF Family/Standard: 802.15.4; Mounting Type: Through Hole
footprint DIGI XBEE PRO RPSMA
pins: 1 VCC, 2 DOUT, 3 DIN/~{CONFIG}, 4 DO8, 5 ~{RESET}, 6 PWM0/RSSI, 7 PWM1, 9 ~{DT}R/SLEEP_RQ/DI8, 10 GND, 11 AD4/DIO4, 12 ~{CTS}/DIO7, 13 ON/~{SLEEP}, 14 VREF, 15 ASSOC/AD5/DIO5, 16 ~{RTS}/AD6/DIO6, 17 AD3/DIO3, 18 AD2/DIO2, 19 AD1/DIO1, 20 AD0/DIO0

## 10921
designator A?, comment XBP9B-DMST-022
XBEE PRO RPSMA 250MW 200KBPS; Manufacturer: Digi International; RF Family/Standard: General ISM &lt; 1GHz; Modulation: FHSS; Frequency: 920MHz; Power - Output: 24dBm; Sensitivity: -101dBm; Serial Interfaces: UART; Antenna Type: Not Included, RP-SMA; Voltage - Supply: 2.1 V ~ 3.6 V; Current - Receiving: 29mA; Current - Transmitting: 215mA; PartId: 10921; Part Number: XBP9B-DMST-022; Supplier 1: Digi-Key; Supplier Part Number 1: XBP9B-DMST-022-ND; ComponentLink1Description: Datasheet; ComponentLink1URL: http://www.digi.com/pdf/ds_xbeepro900hp.pdf; ComponentLink2Description: Digi-Key Listing; ComponentLink2URL: https://www.digikey.com/product-detail/en/digi-international/XBP9B-DMST-022/XBP9B-DMST-022-ND/3728682; Price: 54.41; Device Package: Module; Operating Temperature: -40C ~ 85C; DataRate: 200kbps; Mounting Type: Through Hole
footprint DIGI XBEE PRO RPSMA
pins: 1 VCC, 2 DOUT, 3 DIN/~{CONFIG}, 4 DO8, 5 ~{RESET}, 6 PWM0/RSSI, 7 PWM1, 9 ~{DT}R/SLEEP_RQ/DI8, 10 GND, 11 AD4/DIO4, 12 ~{CTS}/DIO7, 13 ON/~{SLEEP}, 14 VREF, 15 ASSOC/AD5/DIO5, 16 ~{RTS}/AD6/DIO6, 17 AD3/DIO3, 18 AD2/DIO2, 19 AD1/DIO1, 20 AD0/DIO0

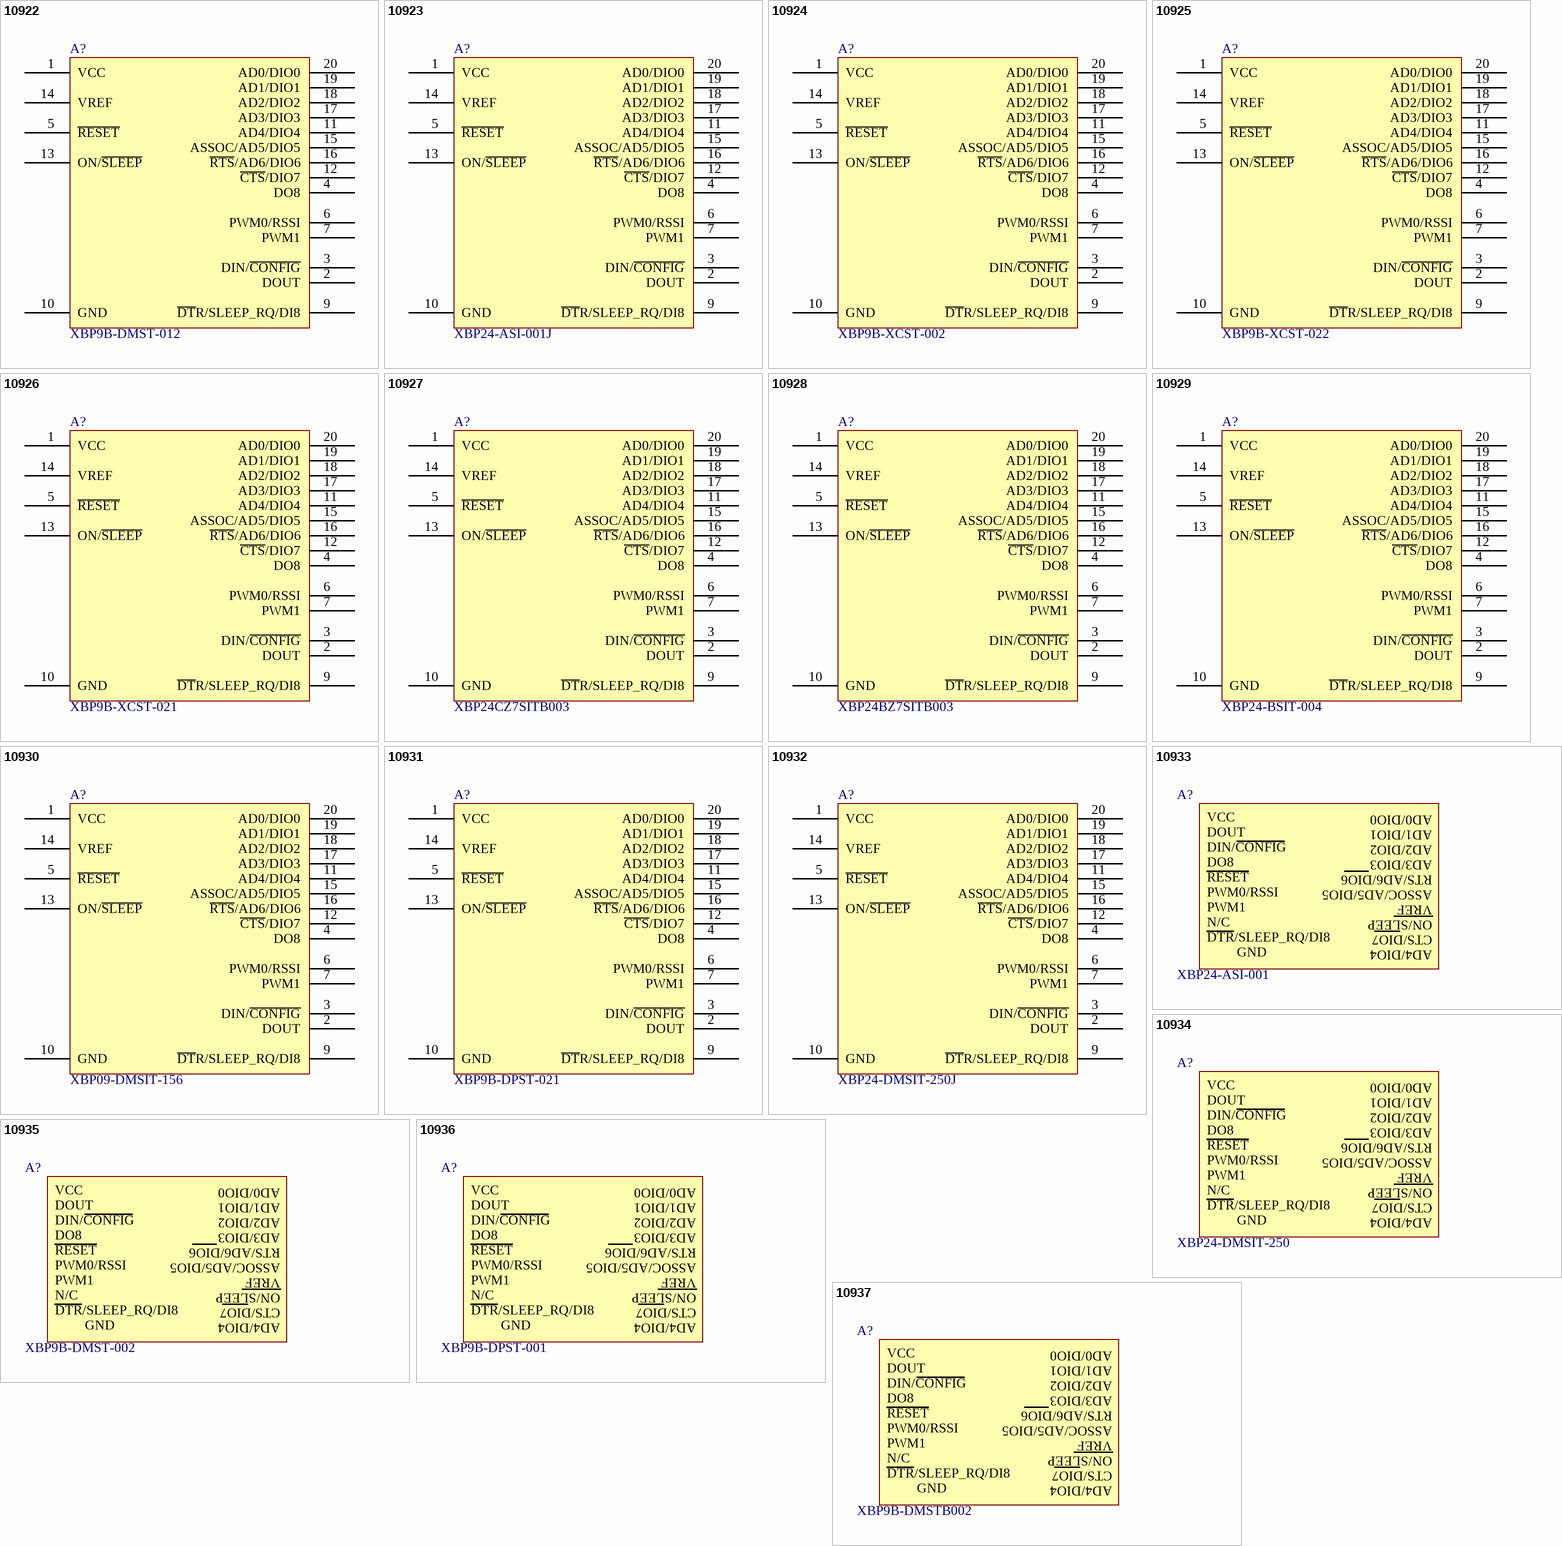
[diagram p2: symbols 10922 to 10937]

## 10922
designator A?, comment XBP9B-DMST-012
XBEE PRO DIGMESH S3B 900HP RPSMA; Manufacturer: Digi International; RF Family/Standard: General ISM &lt; 1GHz; Modulation: FHSS; Frequency: 902MHz ~ 928MHz; DataRate: 200kbps; Power - Output: 24dBm; Sensitivity: -101dBm; Serial Interfaces: UART; Antenna Type: Not Included, RP-SMA; Voltage - Supply: 2.1 V ~ 3.6 V; Current - Receiving: 29mA; Current - Transmitting: 215mA; PartId: 10922; Part Number: XBP9B-DMST-012; Supplier 1: Digi-Key; Supplier Part Number 1: 602-1304-ND; ComponentLink1Description: Datasheet; ComponentLink1URL: http://www.digi.com/pdf/ds_xbeepro900hp.pdf; ComponentLink2Description: Digi-Key Listing; ComponentLink2URL: https://www.digikey.com/product-detail/en/digi-international/XBP9B-DMST-012/602-1304-ND/3911190; Price: 54.41; Device Package: Module; Operating Temperature: -40C ~ 85C; Mounting Type: Through Hole
footprint DIGI XBEE PRO RPSMA
pins: 1 VCC, 2 DOUT, 3 DIN/~{CONFIG}, 4 DO8, 5 ~{RESET}, 6 PWM0/RSSI, 7 PWM1, 9 ~{DT}R/SLEEP_RQ/DI8, 10 GND, 11 AD4/DIO4, 12 ~{CTS}/DIO7, 13 ON/~{SLEEP}, 14 VREF, 15 ASSOC/AD5/DIO5, 16 ~{RTS}/AD6/DIO6, 17 AD3/DIO3, 18 AD2/DIO2, 19 AD1/DIO1, 20 AD0/DIO0

## 10923
designator A?, comment XBP24-ASI-001J
XBEE PRO 802.15.4 10MW RPSMA; Manufacturer: Digi International; Protocol: Zigbee; Frequency: 2.4GHz; DataRate: 250kbps; Power - Output: 10dBm; Sensitivity: -100dBm; Serial Interfaces: UART; Antenna Type: Not Included, RP-SMA; Voltage - Supply: 2.8 V ~ 3.4 V; Current - Receiving: 55mA; Current - Transmitting: 180mA; PartId: 10923; Part Number: XBP24-ASI-001J; Supplier 1: Digi-Key; Supplier Part Number 1: 602-1478-ND; ComponentLink1Description: Datasheet; ComponentLink1URL: http://www.digi.com/pdf/ds_xbeemultipointmodules.pdf; ComponentLink2Description: Digi-Key Listing; ComponentLink2URL: https://www.digikey.com/product-detail/en/digi-international/XBP24-ASI-001J/602-1478-ND/3482670; Price: 47.44; Device Package: Module; Operating Temperature: -40C ~ 85C; RF Family/Standard: 802.15.4; Mounting Type: Through Hole
footprint DIGI XBEE PRO RPSMA
pins: 1 VCC, 2 DOUT, 3 DIN/~{CONFIG}, 4 DO8, 5 ~{RESET}, 6 PWM0/RSSI, 7 PWM1, 9 ~{DT}R/SLEEP_RQ/DI8, 10 GND, 11 AD4/DIO4, 12 ~{CTS}/DIO7, 13 ON/~{SLEEP}, 14 VREF, 15 ASSOC/AD5/DIO5, 16 ~{RTS}/AD6/DIO6, 17 AD3/DIO3, 18 AD2/DIO2, 19 AD1/DIO1, 20 AD0/DIO0

## 10924
designator A?, comment XBP9B-XCST-002
XBEE PRO XSC S3B 900MHZ 250MW; Manufacturer: Digi International; RF Family/Standard: General ISM &lt; 1GHz; Modulation: FHSS; Frequency: 902MHz ~ 928MHz; DataRate: 20kbps; Power - Output: 24dBm; Sensitivity: -107dBm; Serial Interfaces: SPI, UART; Antenna Type: Not Included, RP-SMA; Voltage - Supply: 2.4 V ~ 3.6 V; Current - Receiving: 26mA; Current - Transmitting: 215mA; PartId: 10924; Part Number: XBP9B-XCST-002; Supplier 1: Digi-Key; Supplier Part Number 1: 602-1294-ND; ComponentLink1Description: Datasheet; ComponentLink1URL: http://www.digi.com/pdf/ds_xbeeproxsc.pdf; ComponentLink2Description: Digi-Key Listing; ComponentLink2URL: https://www.digikey.com/product-detail/en/digi-international/XBP9B-XCST-002/602-1294-ND/3482818; Price: 58.6; Device Package: Module; Operating Temperature: -40C ~ 85C; Mounting Type: Through Hole
footprint DIGI XBEE PRO RPSMA
pins: 1 VCC, 2 DOUT, 3 DIN/~{CONFIG}, 4 DO8, 5 ~{RESET}, 6 PWM0/RSSI, 7 PWM1, 9 ~{DT}R/SLEEP_RQ/DI8, 10 GND, 11 AD4/DIO4, 12 ~{CTS}/DIO7, 13 ON/~{SLEEP}, 14 VREF, 15 ASSOC/AD5/DIO5, 16 ~{RTS}/AD6/DIO6, 17 AD3/DIO3, 18 AD2/DIO2, 19 AD1/DIO1, 20 AD0/DIO0

## 10925
designator A?, comment XBP9B-XCST-022
XBEE PRO XSC S3B 900MHZ 250MW; Manufacturer: Digi International; RF Family/Standard: General ISM &lt; 1GHz; Modulation: FHSS; Frequency: 902MHz ~ 928MHz; DataRate: 20kbps; Power - Output: 24dBm; Sensitivity: -107dBm; Serial Interfaces: SPI, UART; Antenna Type: Not Included, RP-SMA; Voltage - Supply: 2.4 V ~ 3.6 V; Current - Receiving: 26mA; Current - Transmitting: 215mA; PartId: 10925; Part Number: XBP9B-XCST-022; Supplier 1: Digi-Key; Supplier Part Number 1: 602-1353-ND; ComponentLink1Description: Datasheet; ComponentLink1URL: http://www.digi.com/pdf/ds_xbeeproxsc.pdf; ComponentLink2Description: Digi-Key Listing; ComponentLink2URL: https://www.digikey.com/product-detail/en/digi-international/XBP9B-XCST-022/602-1353-ND/3482820; Price: 58.6; Device Package: Module; Operating Temperature: -40C ~ 85C; Mounting Type: Through Hole
footprint DIGI XBEE PRO RPSMA
pins: 1 VCC, 2 DOUT, 3 DIN/~{CONFIG}, 4 DO8, 5 ~{RESET}, 6 PWM0/RSSI, 7 PWM1, 9 ~{DT}R/SLEEP_RQ/DI8, 10 GND, 11 AD4/DIO4, 12 ~{CTS}/DIO7, 13 ON/~{SLEEP}, 14 VREF, 15 ASSOC/AD5/DIO5, 16 ~{RTS}/AD6/DIO6, 17 AD3/DIO3, 18 AD2/DIO2, 19 AD1/DIO1, 20 AD0/DIO0

## 10926
designator A?, comment XBP9B-XCST-021
XBEE PRO XSC S3B 900MHZ 250MW; Manufacturer: Digi International; RF Family/Standard: General ISM &lt; 1GHz; Modulation: FHSS; Frequency: 902MHz ~ 928MHz; DataRate: 20kbps; Power - Output: 24dBm; Sensitivity: -109dBm; Serial Interfaces: SPI, UART; Antenna Type: Not Included, RP-SMA; Voltage - Supply: 2.4 V ~ 3.6 V; Current - Receiving: 26mA; Current - Transmitting: 215mA; PartId: 10926; Part Number: XBP9B-XCST-021; Supplier 1: Digi-Key; Supplier Part Number 1: 602-1352-ND; ComponentLink1Description: Datasheet; ComponentLink1URL: http://www.digi.com/pdf/ds_xbeeproxsc.pdf; ComponentLink2Description: Digi-Key Listing; ComponentLink2URL: https://www.digikey.com/product-detail/en/digi-international/XBP9B-XCST-021/602-1352-ND/3482819; Price: 58.6; Device Package: Module; Operating Temperature: -40C ~ 85C; Mounting Type: Through Hole
footprint DIGI XBEE PRO RPSMA
pins: 1 VCC, 2 DOUT, 3 DIN/~{CONFIG}, 4 DO8, 5 ~{RESET}, 6 PWM0/RSSI, 7 PWM1, 9 ~{DT}R/SLEEP_RQ/DI8, 10 GND, 11 AD4/DIO4, 12 ~{CTS}/DIO7, 13 ON/~{SLEEP}, 14 VREF, 15 ASSOC/AD5/DIO5, 16 ~{RTS}/AD6/DIO6, 17 AD3/DIO3, 18 AD2/DIO2, 19 AD1/DIO1, 20 AD0/DIO0

## 10927
designator A?, comment XBP24CZ7SITB003
MODULE XBEE W/RPSMA ANT; Manufacturer: Digi International; Protocol: Zigbee; Frequency: 2.4GHz; DataRate: 250kbps; Power - Output: 18dBm; Sensitivity: -101dBm; Serial Interfaces: SPI, UART; Antenna Type: Not Included, RP-SMA; Memory Size: 32kB Flash, 2kB RAM; Voltage - Supply: 2.7 V ~ 3.6 V; Current - Receiving: 45mA; Current - Transmitting: 120mA; PartId: 10927; Part Number: XBP24CZ7SITB003; Supplier 1: Digi-Key; Supplier Part Number 1: 602-1860-ND; ComponentLink1Description: Datasheet; ComponentLink1URL: http://www.digi.com/pdf/ds_xbee_zigbee.pdf; ComponentLink2Description: Digi-Key Listing; ComponentLink2URL: https://www.digikey.com/product-detail/en/digi-international/XBP24CZ7SITB003/602-1860-ND/5322882; Price: 43.6; Device Package: Module; Operating Temperature: -40C ~ 85C; RF Family/Standard: 802.15.4; Mounting Type: Through Hole
footprint DIGI XBEE PRO RPSMA
pins: 1 VCC, 2 DOUT, 3 DIN/~{CONFIG}, 4 DO8, 5 ~{RESET}, 6 PWM0/RSSI, 7 PWM1, 9 ~{DT}R/SLEEP_RQ/DI8, 10 GND, 11 AD4/DIO4, 12 ~{CTS}/DIO7, 13 ON/~{SLEEP}, 14 VREF, 15 ASSOC/AD5/DIO5, 16 ~{RTS}/AD6/DIO6, 17 AD3/DIO3, 18 AD2/DIO2, 19 AD1/DIO1, 20 AD0/DIO0

## 10928
designator A?, comment XBP24BZ7SITB003
MODULE ZIGBEE-PRO W/RPSMA ANT; Manufacturer: Digi International; Protocol: Zigbee; Frequency: 2.4GHz; DataRate: 250kbps; Power - Output: 18dBm; Sensitivity: -102dBm; Serial Interfaces: IC, PWM, SPI, UART; Antenna Type: Not Included, RP-SMA; Voltage - Supply: 2.7 V ~ 3.6 V; Current - Receiving: 62mA; Current - Transmitting: 220mA; PartId: 10928; Part Number: XBP24BZ7SITB003; Supplier 1: Digi-Key; Supplier Part Number 1: 602-1190-ND; ComponentLink1Description: Datasheet; ComponentLink1URL: //media.digikey.com/pdf/Data%20Sheets/Digi%20International%20PDFs/xbeezbmodule_ds.pdf; ComponentLink2Description: Digi-Key Listing; ComponentLink2URL: https://www.digikey.com/product-detail/en/digi-international/XBP24BZ7SITB003/602-1190-ND/2522070; Price: 42.9; Device Package: Module; Operating Temperature: -40C ~ 85C; RF Family/Standard: 802.15.4; Mounting Type: Through Hole
footprint DIGI XBEE PRO RPSMA
pins: 1 VCC, 2 DOUT, 3 DIN/~{CONFIG}, 4 DO8, 5 ~{RESET}, 6 PWM0/RSSI, 7 PWM1, 9 ~{DT}R/SLEEP_RQ/DI8, 10 GND, 11 AD4/DIO4, 12 ~{CTS}/DIO7, 13 ON/~{SLEEP}, 14 VREF, 15 ASSOC/AD5/DIO5, 16 ~{RTS}/AD6/DIO6, 17 AD3/DIO3, 18 AD2/DIO2, 19 AD1/DIO1, 20 AD0/DIO0

## 10929
designator A?, comment XBP24-BSIT-004
MODULE XBEE PRO ZNET 2.5 W/RPSMA; Manufacturer: Digi International; Protocol: Zigbee; Frequency: 2.4GHz; DataRate: 250kbps; Power - Output: 18dBm; Sensitivity: -102dBm; Serial Interfaces: UART; Antenna Type: Not Included, RP-SMA; Voltage - Supply: 2.7 V ~ 3.6 V; Current - Receiving: 47mA; Current - Transmitting: 205mA; PartId: 10929; Part Number: XBP24-BSIT-004; Supplier 1: Digi-Key; Supplier Part Number 1: XBP24-BSIT-004-ND; ComponentLink1Description: Datasheet; ComponentLink1URL: //media.digikey.com/pdf/Data%20Sheets/Digi%20International%20PDFs/xbeezbmodule_ds.pdf; ComponentLink2Description: Digi-Key Listing; ComponentLink2URL: https://www.digikey.com/product-detail/en/digi-international/XBP24-BSIT-004/XBP24-BSIT-004-ND/1870580; Price: 50.23; Device Package: Module; Operating Temperature: -40C ~ 85C; RF Family/Standard: 802.15.4; Mounting Type: Through Hole
footprint DIGI XBEE PRO RPSMA
pins: 1 VCC, 2 DOUT, 3 DIN/~{CONFIG}, 4 DO8, 5 ~{RESET}, 6 PWM0/RSSI, 7 PWM1, 9 ~{DT}R/SLEEP_RQ/DI8, 10 GND, 11 AD4/DIO4, 12 ~{CTS}/DIO7, 13 ON/~{SLEEP}, 14 VREF, 15 ASSOC/AD5/DIO5, 16 ~{RTS}/AD6/DIO6, 17 AD3/DIO3, 18 AD2/DIO2, 19 AD1/DIO1, 20 AD0/DIO0

## 10930
designator A?, comment XBP09-DMSIT-156
MODULE XBEE PRO W/RPSMA; Manufacturer: Digi International; Protocol: Zigbee; Frequency: 900MHz; DataRate: 156kbps; Power - Output: 17dBm; Sensitivity: -100dBm; Antenna Type: Not Included, RP-SMA; Voltage - Supply: 3 V ~ 3.6 V; Current - Receiving: 80mA; Current - Transmitting: 210mA; PartId: 10930; Part Number: XBP09-DMSIT-156; Supplier 1: Digi-Key; Supplier Part Number 1: 602-1476-ND; ComponentLink1Description: Datasheet; ComponentLink1URL: http://ftp1.digi.com/support/documentation/90000903_G.pdf; ComponentLink2Description: Digi-Key Listing; ComponentLink2URL: https://www.digikey.com/product-detail/en/digi-international/XBP09-DMSIT-156/602-1476-ND/2619086; Price: 58.6; Device Package: Module; Operating Temperature: -40C ~ 85C; RF Family/Standard: 802.15.4; Mounting Type: Through Hole
footprint DIGI XBEE PRO RPSMA
pins: 1 VCC, 2 DOUT, 3 DIN/~{CONFIG}, 4 DO8, 5 ~{RESET}, 6 PWM0/RSSI, 7 PWM1, 9 ~{DT}R/SLEEP_RQ/DI8, 10 GND, 11 AD4/DIO4, 12 ~{CTS}/DIO7, 13 ON/~{SLEEP}, 14 VREF, 15 ASSOC/AD5/DIO5, 16 ~{RTS}/AD6/DIO6, 17 AD3/DIO3, 18 AD2/DIO2, 19 AD1/DIO1, 20 AD0/DIO0

## 10931
designator A?, comment XBP9B-DPST-021
XBEE PRO RPSMA 250MW 10KBPS; Manufacturer: Digi International; RF Family/Standard: General ISM &lt; 1GHz; Modulation: FHSS; Frequency: 902MHz ~ 928MHz; Power - Output: 24dBm; Sensitivity: -110dBm; Serial Interfaces: SPI, UART; Antenna Type: Not Included, RP-SMA; Voltage - Supply: 2.1 V ~ 3.6 V; Current - Receiving: 29mA; Current - Transmitting: 215mA; PartId: 10931; Part Number: XBP9B-DPST-021; Supplier 1: Digi-Key; Supplier Part Number 1: 602-1488-ND; ComponentLink1Description: Datasheet; ComponentLink1URL: http://www.digi.com/pdf/ds_xbeepro900hp.pdf; ComponentLink2Description: Digi-Key Listing; ComponentLink2URL: https://www.digikey.com/product-detail/en/digi-international/XBP9B-DPST-021/602-1488-ND/3728685; Price: 54.41; Device Package: Module; Operating Temperature: -40C ~ 85C; DataRate: 10kbps; Mounting Type: Through Hole
footprint DIGI XBEE PRO RPSMA
pins: 1 VCC, 2 DOUT, 3 DIN/~{CONFIG}, 4 DO8, 5 ~{RESET}, 6 PWM0/RSSI, 7 PWM1, 9 ~{DT}R/SLEEP_RQ/DI8, 10 GND, 11 AD4/DIO4, 12 ~{CTS}/DIO7, 13 ON/~{SLEEP}, 14 VREF, 15 ASSOC/AD5/DIO5, 16 ~{RTS}/AD6/DIO6, 17 AD3/DIO3, 18 AD2/DIO2, 19 AD1/DIO1, 20 AD0/DIO0

## 10932
designator A?, comment XBP24-DMSIT-250J
XBEE PRO DIGIMESH 2.4GHZ 63MW; Manufacturer: Digi International; RF Family/Standard: General ISM &gt; 1GHZ; Modulation: DSSS; DataRate: 250kbps; Power - Output: 10dBm; Sensitivity: -100dBm; Serial Interfaces: UART; Antenna Type: Not Included, RP-SMA; Voltage - Supply: 2.8 V ~ 3.4 V; Current - Receiving: 55mA; Current - Transmitting: 180mA; PartId: 10932; Part Number: XBP24-DMSIT-250J; Supplier 1: Digi-Key; Supplier Part Number 1: 602-1809-ND; ComponentLink1Description: Datasheet; ComponentLink1URL: http://www.digi.com/pdf/ds_xbeedigimesh24.pdf; ComponentLink2Description: Digi-Key Listing; ComponentLink2URL: https://www.digikey.com/product-detail/en/digi-international/XBP24-DMSIT-250J/602-1809-ND/3482756; Price: 47.44; Device Package: Module; Operating Temperature: -40C ~ 85C; Frequency: 2.4GHz; Mounting Type: Through Hole
footprint DIGI XBEE PRO RPSMA
pins: 1 VCC, 2 DOUT, 3 DIN/~{CONFIG}, 4 DO8, 5 ~{RESET}, 6 PWM0/RSSI, 7 PWM1, 9 ~{DT}R/SLEEP_RQ/DI8, 10 GND, 11 AD4/DIO4, 12 ~{CTS}/DIO7, 13 ON/~{SLEEP}, 14 VREF, 15 ASSOC/AD5/DIO5, 16 ~{RTS}/AD6/DIO6, 17 AD3/DIO3, 18 AD2/DIO2, 19 AD1/DIO1, 20 AD0/DIO0

## 10933
designator A?, comment XBP24-ASI-001
MODULE XBEE PRO W/RPSMA; Manufacturer: Digi International; Protocol: Zigbee; Frequency: 2.4GHz; DataRate: 250kbps; Power - Output: 18dBm; Sensitivity: -100dBm; Serial Interfaces: UART; Antenna Type: Not Included, RP-SMA; Voltage - Supply: 2.8 V ~ 3.4 V; Current - Receiving: 55mA; Current - Transmitting: 340mA; PartId: 10933; Part Number: XBP24-ASI-001; Supplier 1: Digi-Key; Supplier Part Number 1: XBP24-ASI-001-ND; ComponentLink1Description: Datasheet; ComponentLink1URL: http://www.digi.com/pdf/ds_xbeemultipointmodules.pdf; ComponentLink2Description: Digi-Key Listing; ComponentLink2URL: https://www.digikey.com/product-detail/en/digi-international/XBP24-ASI-001/XBP24-ASI-001-ND/2175373; Price: 47.44; Device Package: Module; Operating Temperature: -40C ~ 85C; RF Family/Standard: 802.15.4; Mounting Type: Through Hole
footprint DIGI XBEE PRO RPSMA FOR HDR
text: AD0/DIO0; VCC; AD1/DIO1; DOUT; AD2/DIO2; DIN/CONFIG; AD3/DIO3; DO8; RTS/AD6/DIO6; RESET; ASSOC/AD5/DIO5; PWM0/RSSI; VREF; PWM1; ON/SLEEP; N/C; CTS/DIO7; DTR/SLEEP_RQ/DI8; AD4/DIO4; GND

## 10934
designator A?, comment XBP24-DMSIT-250
XBEE PRO DIGIMESH 2.4GHZ 63MW; Manufacturer: Digi International; RF Family/Standard: General ISM &gt; 1GHZ; Modulation: DSSS; DataRate: 250kbps; Power - Output: 18dBm; Sensitivity: -100dBm; Serial Interfaces: UART; Antenna Type: Not Included, RP-SMA; Voltage - Supply: 2.8 V ~ 3.4 V; Current - Receiving: 55mA; Current - Transmitting: 340mA; PartId: 10934; Part Number: XBP24-DMSIT-250; Supplier 1: Digi-Key; Supplier Part Number 1: 602-1281-ND; ComponentLink1Description: Datasheet; ComponentLink1URL: http://www.digi.com/pdf/ds_xbeedigimesh24.pdf; ComponentLink2Description: Digi-Key Listing; ComponentLink2URL: https://www.digikey.com/product-detail/en/digi-international/XBP24-DMSIT-250/602-1281-ND/3482755; Price: 47.44; Device Package: Module; Operating Temperature: -40C ~ 85C; Frequency: 2.4GHz; Mounting Type: Through Hole
footprint DIGI XBEE PRO RPSMA FOR HDR
text: AD0/DIO0; VCC; AD1/DIO1; DOUT; AD2/DIO2; DIN/CONFIG; AD3/DIO3; DO8; RTS/AD6/DIO6; RESET; ASSOC/AD5/DIO5; PWM0/RSSI; VREF; PWM1; ON/SLEEP; N/C; CTS/DIO7; DTR/SLEEP_RQ/DI8; AD4/DIO4; GND

## 10935
designator A?, comment XBP9B-DMST-002
MODULE XBEE PRO S3B 900HP RPSMA; Manufacturer: Digi International; RF Family/Standard: General ISM &lt; 1GHz; Modulation: FHSS; Frequency: 900MHz; DataRate: 200kbps; Power - Output: 24dBm; Sensitivity: -101dBm; Serial Interfaces: UART; Antenna Type: Not Included, RP-SMA; Voltage - Supply: 2.1 V ~ 3.6 V; Current - Receiving: 29mA; Current - Transmitting: 215mA; PartId: 10935; Part Number: XBP9B-DMST-002; Supplier 1: Digi-Key; Supplier Part Number 1: 602-1299-ND; ComponentLink1Description: Datasheet; ComponentLink1URL: http://www.digi.com/pdf/ds_xbeepro900hp.pdf; ComponentLink2Description: Digi-Key Listing; ComponentLink2URL: https://www.digikey.com/product-detail/en/digi-international/XBP9B-DMST-002/602-1299-ND/3594157; Price: 54.41; Device Package: Module; Operating Temperature: -40C ~ 85C; Mounting Type: Through Hole
footprint DIGI XBEE PRO RPSMA FOR HDR
text: AD0/DIO0; VCC; AD1/DIO1; DOUT; AD2/DIO2; DIN/CONFIG; AD3/DIO3; DO8; RTS/AD6/DIO6; RESET; ASSOC/AD5/DIO5; PWM0/RSSI; VREF; PWM1; ON/SLEEP; N/C; CTS/DIO7; DTR/SLEEP_RQ/DI8; AD4/DIO4; GND

## 10936
designator A?, comment XBP9B-DPST-001
MODULE XBEE PRO S3B 900HP RPSMA; Manufacturer: Digi International; RF Family/Standard: General ISM &lt; 1GHz; Modulation: FHSS; Frequency: 902MHz ~ 928MHz; DataRate: 200kbps; Power - Output: 24dBm; Sensitivity: -101dBm; Serial Interfaces: SPI, UART; Antenna Type: Not Included, RP-SMA; Voltage - Supply: 2.1 V ~ 3.6 V; Current - Receiving: 29mA; Current - Transmitting: 215mA; PartId: 10936; Part Number: XBP9B-DPST-001; Supplier 1: Digi-Key; Supplier Part Number 1: 602-1349-ND; ComponentLink1Description: Datasheet; ComponentLink1URL: http://www.digi.com/pdf/ds_xbeepro900hp.pdf; ComponentLink2Description: Digi-Key Listing; ComponentLink2URL: https://www.digikey.com/product-detail/en/digi-international/XBP9B-DPST-001/602-1349-ND/3594160; Price: 54.41; Device Package: Module; Operating Temperature: -40C ~ 85C; Mounting Type: Through Hole
footprint DIGI XBEE PRO RPSMA FOR HDR
text: AD0/DIO0; VCC; AD1/DIO1; DOUT; AD2/DIO2; DIN/CONFIG; AD3/DIO3; DO8; RTS/AD6/DIO6; RESET; ASSOC/AD5/DIO5; PWM0/RSSI; VREF; PWM1; ON/SLEEP; N/C; CTS/DIO7; DTR/SLEEP_RQ/DI8; AD4/DIO4; GND

## 10937
designator A?, comment XBP9B-DMSTB002
XBEE PRO DIGIMSH S3B 900HP RPSMA; Manufacturer: Digi International; RF Family/Standard: General ISM &lt; 1GHz; Modulation: FHSS; Frequency: 900MHz; DataRate: 200kbps; Power - Output: 24dBm; Sensitivity: -101dBm; Serial Interfaces: SPI, UART; Antenna Type: Not Included, RP-SMA; Memory Size: 32kB Flash, 2kB RAM; Voltage - Supply: 2.1 V ~ 3.6 V; Current - Receiving: 44mA; Current - Transmitting: 229mA; PartId: 10937; Part Number: XBP9B-DMSTB002; Supplier 1: Digi-Key; Supplier Part Number 1: 602-1346-ND; ComponentLink1Description: Datasheet; ComponentLink1URL: http://www.digi.com/pdf/ds_xbeepro900hp.pdf; ComponentLink2Description: Digi-Key Listing; ComponentLink2URL: https://www.digikey.com/product-detail/en/digi-international/XBP9B-DMSTB002/602-1346-ND/3863548; Price: 58.25; Device Package: Module; Operating Temperature: -40C ~ 85C; Mounting Type: Through Hole
footprint DIGI XBEE PRO RPSMA FOR HDR
text: AD0/DIO0; VCC; AD1/DIO1; DOUT; AD2/DIO2; DIN/CONFIG; AD3/DIO3; DO8; RTS/AD6/DIO6; RESET; ASSOC/AD5/DIO5; PWM0/RSSI; VREF; PWM1; ON/SLEEP; N/C; CTS/DIO7; DTR/SLEEP_RQ/DI8; AD4/DIO4; GND

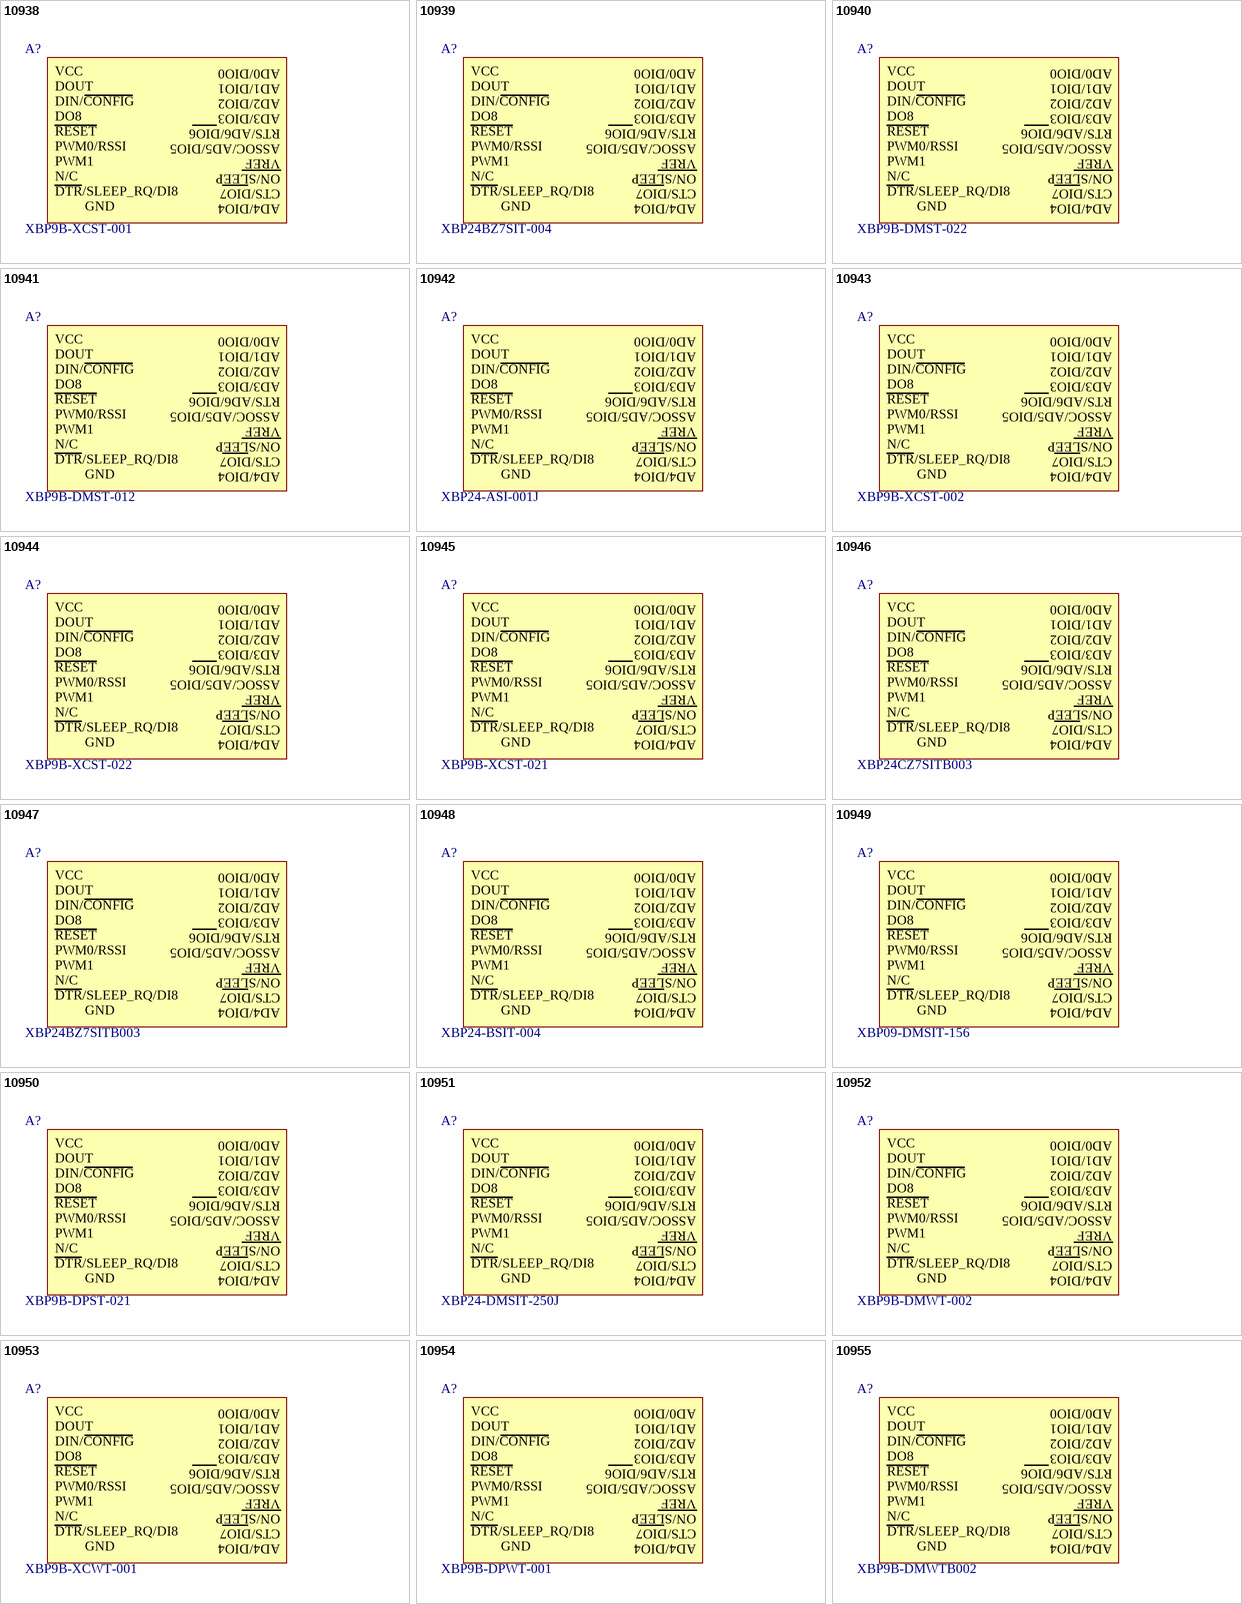
[diagram p3: symbols 10938 to 10955]